# Altium schematic symbol library FPGA_Xilinx_Artix7.SchLib: 27 symbols (part 1 of 5)
Pins are listed as number, name and electrical type; pins without a type are passive.

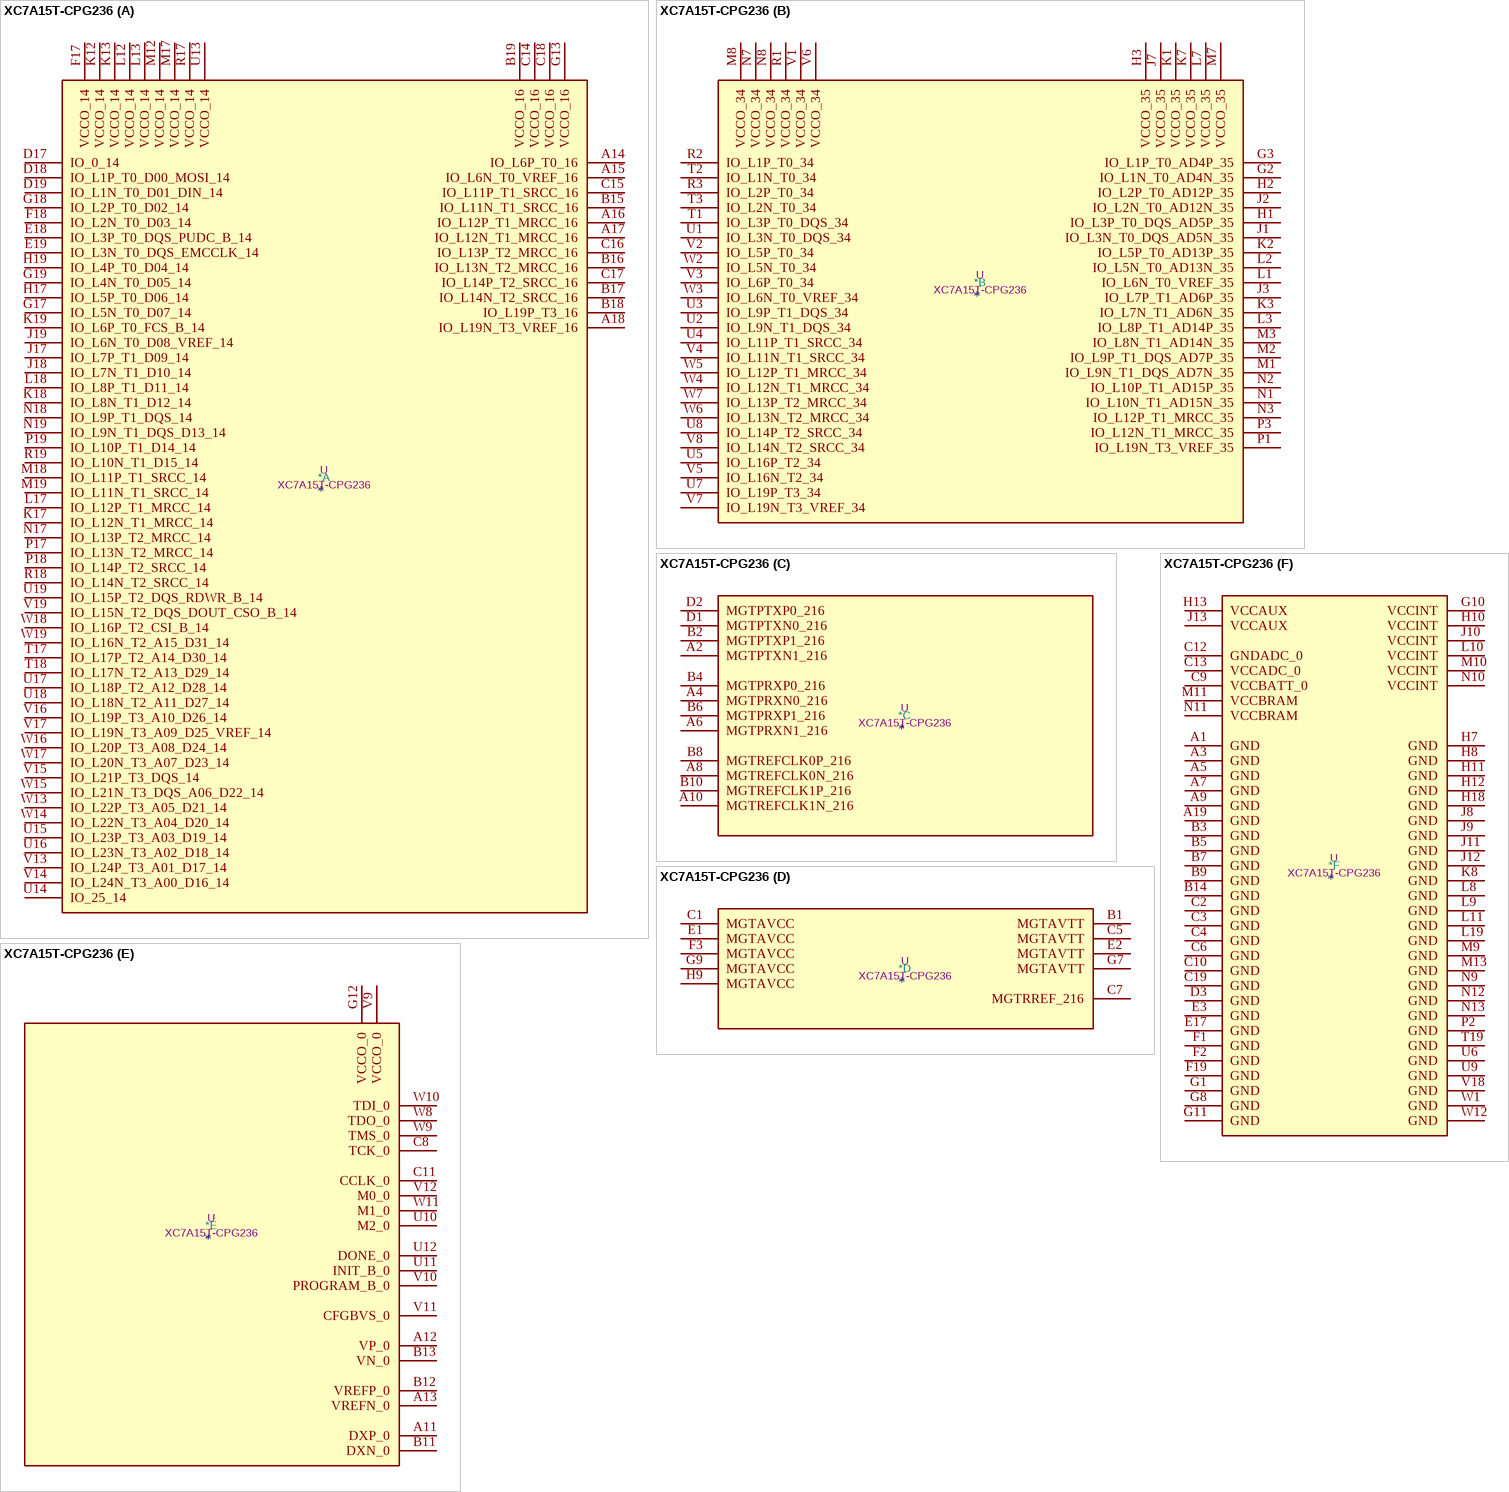
[diagram p0: symbol XC7A15T-CPG236]

## XC7A15T-CPG236
designator *  value XC7A15T-CPG236  Reference: U
Artix 7 T 15 XC7A15T-CPG236; ki_keywords: FPGA; Description_: Artix 7 T 15 XC7A15T-CPG236
part A pins: A14 IO_L6P_T0_16, A15 IO_L6N_T0_VREF_16, A16 IO_L12P_T1_MRCC_16, A17 IO_L12N_T1_MRCC_16, A18 IO_L19N_T3_VREF_16, B15 IO_L11N_T1_SRCC_16, B16 IO_L13N_T2_MRCC_16, B17 IO_L14N_T2_SRCC_16, B18 IO_L19P_T3_16, B19 VCCO_16, C14 VCCO_16, C15 IO_L11P_T1_SRCC_16, C16 IO_L13P_T2_MRCC_16, C17 IO_L14P_T2_SRCC_16, C18 VCCO_16, D17 IO_0_14, D18 IO_L1P_T0_D00_MOSI_14, D19 IO_L1N_T0_D01_DIN_14, E18 IO_L3P_T0_DQS_PUDC_B_14, E19 IO_L3N_T0_DQS_EMCCLK_14, F17 VCCO_14, F18 IO_L2N_T0_D03_14, G13 VCCO_16, G17 IO_L5N_T0_D07_14, G18 IO_L2P_T0_D02_14, G19 IO_L4N_T0_D05_14, H17 IO_L5P_T0_D06_14, H19 IO_L4P_T0_D04_14, J17 IO_L7P_T1_D09_14, J18 IO_L7N_T1_D10_14, J19 IO_L6N_T0_D08_VREF_14, K12 VCCO_14, K13 VCCO_14, K17 IO_L12N_T1_MRCC_14, K18 IO_L8N_T1_D12_14, K19 IO_L6P_T0_FCS_B_14, L12 VCCO_14, L13 VCCO_14, L17 IO_L12P_T1_MRCC_14, L18 IO_L8P_T1_D11_14, M12 VCCO_14, M17 VCCO_14, M18 IO_L11P_T1_SRCC_14, M19 IO_L11N_T1_SRCC_14, N17 IO_L13P_T2_MRCC_14, N18 IO_L9P_T1_DQS_14, N19 IO_L9N_T1_DQS_D13_14, P17 IO_L13N_T2_MRCC_14, P18 IO_L14P_T2_SRCC_14, P19 IO_L10P_T1_D14_14, R17 VCCO_14, R18 IO_L14N_T2_SRCC_14, R19 IO_L10N_T1_D15_14, T17 IO_L17P_T2_A14_D30_14, T18 IO_L17N_T2_A13_D29_14, U13 VCCO_14, U14 IO_25_14, U15 IO_L23P_T3_A03_D19_14, U16 IO_L23N_T3_A02_D18_14, U17 IO_L18P_T2_A12_D28_14, U18 IO_L18N_T2_A11_D27_14, U19 IO_L15P_T2_DQS_RDWR_B_14, V13 IO_L24P_T3_A01_D17_14, V14 IO_L24N_T3_A00_D16_14, V15 IO_L21P_T3_DQS_14, V16 IO_L19P_T3_A10_D26_14, V17 IO_L19N_T3_A09_D25_VREF_14, V19 IO_L15N_T2_DQS_DOUT_CSO_B_14, W13 IO_L22P_T3_A05_D21_14, W14 IO_L22N_T3_A04_D20_14, W15 IO_L21N_T3_DQS_A06_D22_14, W16 IO_L20P_T3_A08_D24_14, W17 IO_L20N_T3_A07_D23_14, W18 IO_L16P_T2_CSI_B_14, W19 IO_L16N_T2_A15_D31_14
part B pins: G2 IO_L1N_T0_AD4N_35, G3 IO_L1P_T0_AD4P_35, H1 IO_L3P_T0_DQS_AD5P_35, H2 IO_L2P_T0_AD12P_35, H3 VCCO_35, J1 IO_L3N_T0_DQS_AD5N_35, J2 IO_L2N_T0_AD12N_35, J3 IO_L7P_T1_AD6P_35, J7 VCCO_35, K1 VCCO_35, K2 IO_L5P_T0_AD13P_35, K3 IO_L7N_T1_AD6N_35, K7 VCCO_35, L1 IO_L6N_T0_VREF_35, L2 IO_L5N_T0_AD13N_35, L3 IO_L8P_T1_AD14P_35, L7 VCCO_35, M1 IO_L9N_T1_DQS_AD7N_35, M2 IO_L9P_T1_DQS_AD7P_35, M3 IO_L8N_T1_AD14N_35, M7 VCCO_35, M8 VCCO_34, N1 IO_L10N_T1_AD15N_35, N2 IO_L10P_T1_AD15P_35, N3 IO_L12P_T1_MRCC_35, N7 VCCO_34, N8 VCCO_34, P1 IO_L19N_T3_VREF_35, P3 IO_L12N_T1_MRCC_35, R1 VCCO_34, R2 IO_L1P_T0_34, R3 IO_L2P_T0_34, T1 IO_L3P_T0_DQS_34, T2 IO_L1N_T0_34, T3 IO_L2N_T0_34, U1 IO_L3N_T0_DQS_34, U2 IO_L9N_T1_DQS_34, U3 IO_L9P_T1_DQS_34, U4 IO_L11P_T1_SRCC_34, U5 IO_L16P_T2_34, U7 IO_L19P_T3_34, U8 IO_L14P_T2_SRCC_34, V1 VCCO_34, V2 IO_L5P_T0_34, V3 IO_L6P_T0_34, V4 IO_L11N_T1_SRCC_34, V5 IO_L16N_T2_34, V6 VCCO_34, V7 IO_L19N_T3_VREF_34, V8 IO_L14N_T2_SRCC_34, W2 IO_L5N_T0_34, W3 IO_L6N_T0_VREF_34, W4 IO_L12N_T1_MRCC_34, W5 IO_L12P_T1_MRCC_34, W6 IO_L13N_T2_MRCC_34, W7 IO_L13P_T2_MRCC_34
part C pins: A2 MGTPTXN1_216, A4 MGTPRXN0_216, A6 MGTPRXN1_216, A8 MGTREFCLK0N_216, A10 MGTREFCLK1N_216, B2 MGTPTXP1_216, B4 MGTPRXP0_216, B6 MGTPRXP1_216, B8 MGTREFCLK0P_216, B10 MGTREFCLK1P_216, D1 MGTPTXN0_216, D2 MGTPTXP0_216
part D pins: B1 MGTAVTT, C1 MGTAVCC, C5 MGTAVTT, C7 MGTRREF_216, E1 MGTAVCC, E2 MGTAVTT, F3 MGTAVCC, G7 MGTAVTT, G9 MGTAVCC, H9 MGTAVCC
part E pins: A11 DXP_0, A12 VP_0, A13 VREFN_0, B11 DXN_0, B12 VREFP_0, B13 VN_0, C8 TCK_0, C11 CCLK_0, G12 VCCO_0, U10 M2_0, U11 INIT_B_0, U12 DONE_0, V9 VCCO_0, V10 PROGRAM_B_0, V11 CFGBVS_0, V12 M0_0, W8 TDO_0, W9 TMS_0, W10 TDI_0, W11 M1_0
part F pins: A1 GND, A3 GND, A5 GND, A7 GND, A9 GND, A19 GND, B3 GND, B5 GND, B7 GND, B9 GND, B14 GND, C2 GND, C3 GND, C4 GND, C6 GND, C9 VCCBATT_0, C10 GND, C12 GNDADC_0, C13 VCCADC_0, C19 GND, D3 GND, E3 GND, E17 GND, F1 GND, F2 GND, F19 GND, G1 GND, G8 GND, G10 VCCINT, G11 GND, H7 GND, H8 GND, H10 VCCINT, H11 GND, H12 GND, H13 VCCAUX, H18 GND, J8 GND, J9 GND, J10 VCCINT, J11 GND, J12 GND, J13 VCCAUX, K8 GND, L8 GND, L9 GND, L10 VCCINT, L11 GND, L19 GND, M9 GND, M10 VCCINT, M11 VCCBRAM, M13 GND, N9 GND, N10 VCCINT, N11 VCCBRAM, N12 GND, N13 GND, P2 GND, T19 GND, U6 GND, U9 GND, V18 GND, W1 GND, W12 GND

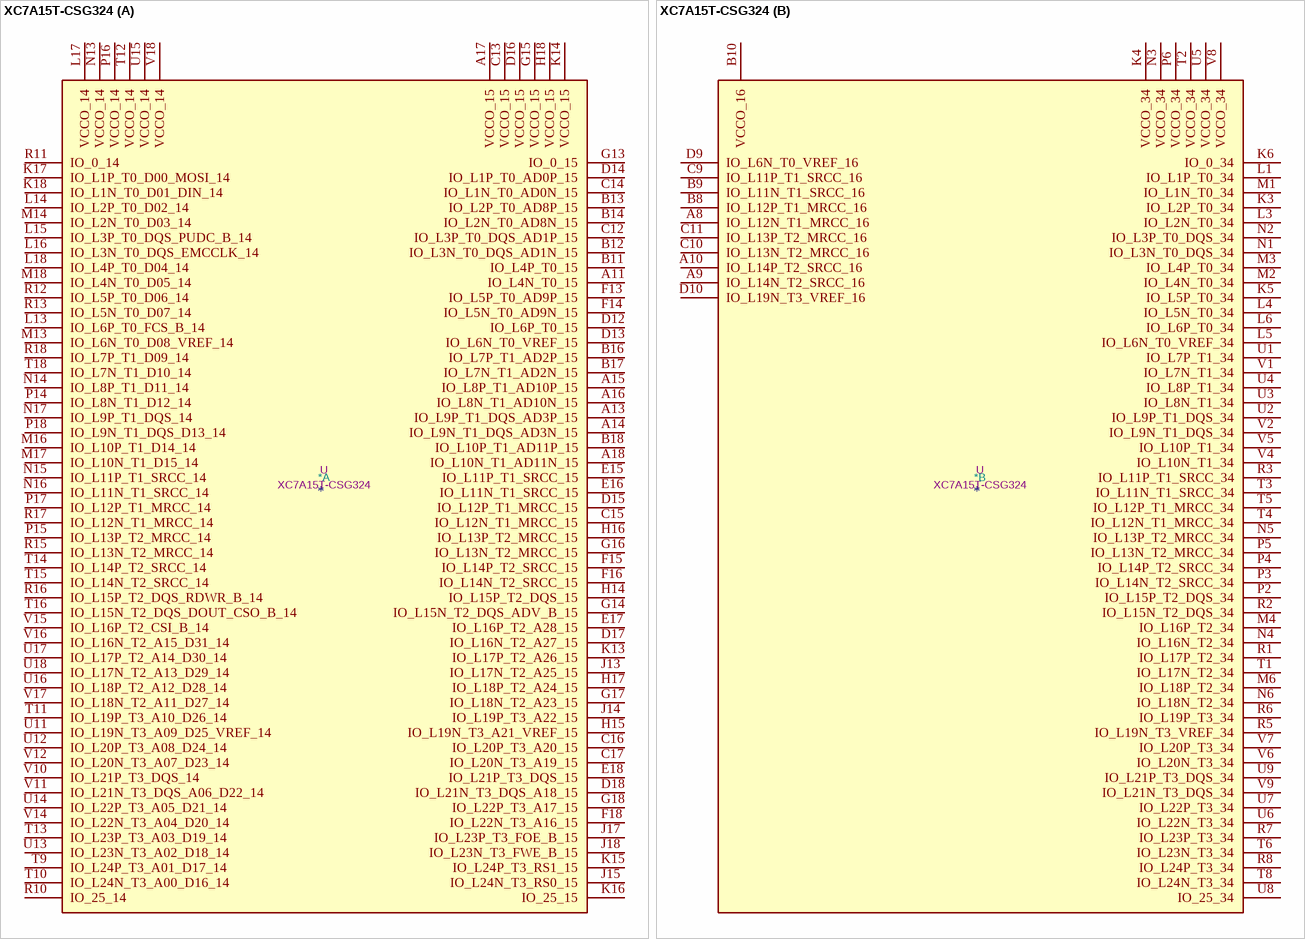
[diagram p1: symbol XC7A15T-CSG324]

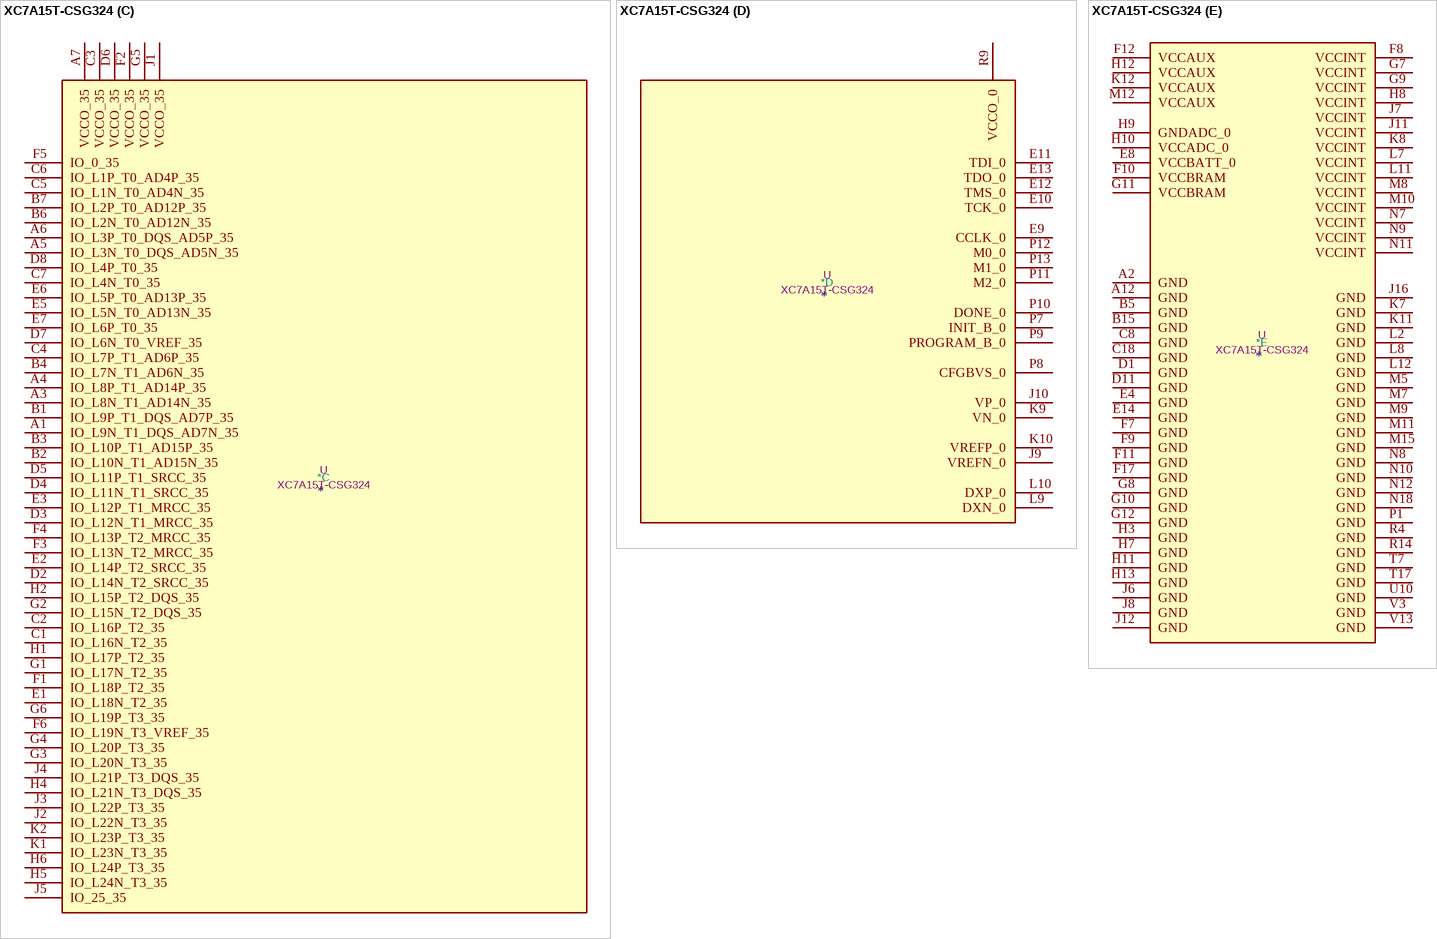
[diagram p2: symbol XC7A15T-CSG324]

## XC7A15T-CSG324
designator *  value XC7A15T-CSG324  Reference: U
Artix 7 T 15 XC7A15T-CSG324; ki_keywords: FPGA; Description_: Artix 7 T 15 XC7A15T-CSG324
part A pins: A11 IO_L4N_T0_15, A13 IO_L9P_T1_DQS_AD3P_15, A14 IO_L9N_T1_DQS_AD3N_15, A15 IO_L8P_T1_AD10P_15, A16 IO_L8N_T1_AD10N_15, A17 VCCO_15, A18 IO_L10N_T1_AD11N_15, B11 IO_L4P_T0_15, B12 IO_L3N_T0_DQS_AD1N_15, B13 IO_L2P_T0_AD8P_15, B14 IO_L2N_T0_AD8N_15, B16 IO_L7P_T1_AD2P_15, B17 IO_L7N_T1_AD2N_15, B18 IO_L10P_T1_AD11P_15, C12 IO_L3P_T0_DQS_AD1P_15, C13 VCCO_15, C14 IO_L1N_T0_AD0N_15, C15 IO_L12N_T1_MRCC_15, C16 IO_L20P_T3_A20_15, C17 IO_L20N_T3_A19_15, D12 IO_L6P_T0_15, D13 IO_L6N_T0_VREF_15, D14 IO_L1P_T0_AD0P_15, D15 IO_L12P_T1_MRCC_15, D16 VCCO_15, D17 IO_L16N_T2_A27_15, D18 IO_L21N_T3_DQS_A18_15, E15 IO_L11P_T1_SRCC_15, E16 IO_L11N_T1_SRCC_15, E17 IO_L16P_T2_A28_15, E18 IO_L21P_T3_DQS_15, F13 IO_L5P_T0_AD9P_15, F14 IO_L5N_T0_AD9N_15, F15 IO_L14P_T2_SRCC_15, F16 IO_L14N_T2_SRCC_15, F18 IO_L22N_T3_A16_15, G13 IO_0_15, G14 IO_L15N_T2_DQS_ADV_B_15, G15 VCCO_15, G16 IO_L13N_T2_MRCC_15, G17 IO_L18N_T2_A23_15, G18 IO_L22P_T3_A17_15, H14 IO_L15P_T2_DQS_15, H15 IO_L19N_T3_A21_VREF_15, H16 IO_L13P_T2_MRCC_15, H17 IO_L18P_T2_A24_15, H18 VCCO_15, J13 IO_L17N_T2_A25_15, J14 IO_L19P_T3_A22_15, J15 IO_L24N_T3_RS0_15, J17 IO_L23P_T3_FOE_B_15, J18 IO_L23N_T3_FWE_B_15, K13 IO_L17P_T2_A26_15, K14 VCCO_15, K15 IO_L24P_T3_RS1_15, K16 IO_25_15, K17 IO_L1P_T0_D00_MOSI_14, K18 IO_L1N_T0_D01_DIN_14, L13 IO_L6P_T0_FCS_B_14, L14 IO_L2P_T0_D02_14, L15 IO_L3P_T0_DQS_PUDC_B_14, L16 IO_L3N_T0_DQS_EMCCLK_14, L17 VCCO_14, L18 IO_L4P_T0_D04_14, M13 IO_L6N_T0_D08_VREF_14, M14 IO_L2N_T0_D03_14, M16 IO_L10P_T1_D14_14, M17 IO_L10N_T1_D15_14, M18 IO_L4N_T0_D05_14, N13 VCCO_14, N14 IO_L8P_T1_D11_14, N15 IO_L11P_T1_SRCC_14, N16 IO_L11N_T1_SRCC_14, N17 IO_L9P_T1_DQS_14, P14 IO_L8N_T1_D12_14, P15 IO_L13P_T2_MRCC_14, P16 VCCO_14, P17 IO_L12P_T1_MRCC_14, P18 IO_L9N_T1_DQS_D13_14, R10 IO_25_14, R11 IO_0_14, R12 IO_L5P_T0_D06_14, R13 IO_L5N_T0_D07_14, R15 IO_L13N_T2_MRCC_14, R16 IO_L15P_T2_DQS_RDWR_B_14, R17 IO_L12N_T1_MRCC_14, R18 IO_L7P_T1_D09_14, T9 IO_L24P_T3_A01_D17_14, T10 IO_L24N_T3_A00_D16_14, T11 IO_L19P_T3_A10_D26_14, T12 VCCO_14, T13 IO_L23P_T3_A03_D19_14, T14 IO_L14P_T2_SRCC_14, T15 IO_L14N_T2_SRCC_14, T16 IO_L15N_T2_DQS_DOUT_CSO_B_14, T18 IO_L7N_T1_D10_14, U11 IO_L19N_T3_A09_D25_VREF_14, U12 IO_L20P_T3_A08_D24_14, U13 IO_L23N_T3_A02_D18_14, U14 IO_L22P_T3_A05_D21_14, U15 VCCO_14, U16 IO_L18P_T2_A12_D28_14, U17 IO_L17P_T2_A14_D30_14, U18 IO_L17N_T2_A13_D29_14, V10 IO_L21P_T3_DQS_14, V11 IO_L21N_T3_DQS_A06_D22_14, V12 IO_L20N_T3_A07_D23_14, V14 IO_L22N_T3_A04_D20_14, V15 IO_L16P_T2_CSI_B_14, V16 IO_L16N_T2_A15_D31_14, V17 IO_L18N_T2_A11_D27_14, V18 VCCO_14
part B pins: A8 IO_L12N_T1_MRCC_16, A9 IO_L14N_T2_SRCC_16, A10 IO_L14P_T2_SRCC_16, B8 IO_L12P_T1_MRCC_16, B9 IO_L11N_T1_SRCC_16, B10 VCCO_16, C9 IO_L11P_T1_SRCC_16, C10 IO_L13N_T2_MRCC_16, C11 IO_L13P_T2_MRCC_16, D9 IO_L6N_T0_VREF_16, D10 IO_L19N_T3_VREF_16, K3 IO_L2P_T0_34, K4 VCCO_34, K5 IO_L5P_T0_34, K6 IO_0_34, L1 IO_L1P_T0_34, L3 IO_L2N_T0_34, L4 IO_L5N_T0_34, L5 IO_L6N_T0_VREF_34, L6 IO_L6P_T0_34, M1 IO_L1N_T0_34, M2 IO_L4N_T0_34, M3 IO_L4P_T0_34, M4 IO_L16P_T2_34, M6 IO_L18P_T2_34, N1 IO_L3N_T0_DQS_34, N2 IO_L3P_T0_DQS_34, N3 VCCO_34, N4 IO_L16N_T2_34, N5 IO_L13P_T2_MRCC_34, N6 IO_L18N_T2_34, P2 IO_L15P_T2_DQS_34, P3 IO_L14N_T2_SRCC_34, P4 IO_L14P_T2_SRCC_34, P5 IO_L13N_T2_MRCC_34, P6 VCCO_34, R1 IO_L17P_T2_34, R2 IO_L15N_T2_DQS_34, R3 IO_L11P_T1_SRCC_34, R5 IO_L19N_T3_VREF_34, R6 IO_L19P_T3_34, R7 IO_L23P_T3_34, R8 IO_L24P_T3_34, T1 IO_L17N_T2_34, T2 VCCO_34, T3 IO_L11N_T1_SRCC_34, T4 IO_L12N_T1_MRCC_34, T5 IO_L12P_T1_MRCC_34, T6 IO_L23N_T3_34, T8 IO_L24N_T3_34, U1 IO_L7P_T1_34, U2 IO_L9P_T1_DQS_34, U3 IO_L8N_T1_34, U4 IO_L8P_T1_34, U5 VCCO_34, U6 IO_L22N_T3_34, U7 IO_L22P_T3_34, U8 IO_25_34, U9 IO_L21P_T3_DQS_34, V1 IO_L7N_T1_34, V2 IO_L9N_T1_DQS_34, V4 IO_L10N_T1_34, V5 IO_L10P_T1_34, V6 IO_L20N_T3_34, V7 IO_L20P_T3_34, V8 VCCO_34, V9 IO_L21N_T3_DQS_34
part C pins: A1 IO_L9N_T1_DQS_AD7N_35, A3 IO_L8N_T1_AD14N_35, A4 IO_L8P_T1_AD14P_35, A5 IO_L3N_T0_DQS_AD5N_35, A6 IO_L3P_T0_DQS_AD5P_35, A7 VCCO_35, B1 IO_L9P_T1_DQS_AD7P_35, B2 IO_L10N_T1_AD15N_35, B3 IO_L10P_T1_AD15P_35, B4 IO_L7N_T1_AD6N_35, B6 IO_L2N_T0_AD12N_35, B7 IO_L2P_T0_AD12P_35, C1 IO_L16N_T2_35, C2 IO_L16P_T2_35, C3 VCCO_35, C4 IO_L7P_T1_AD6P_35, C5 IO_L1N_T0_AD4N_35, C6 IO_L1P_T0_AD4P_35, C7 IO_L4N_T0_35, D2 IO_L14N_T2_SRCC_35, D3 IO_L12N_T1_MRCC_35, D4 IO_L11N_T1_SRCC_35, D5 IO_L11P_T1_SRCC_35, D6 VCCO_35, D7 IO_L6N_T0_VREF_35, D8 IO_L4P_T0_35, E1 IO_L18N_T2_35, E2 IO_L14P_T2_SRCC_35, E3 IO_L12P_T1_MRCC_35, E5 IO_L5N_T0_AD13N_35, E6 IO_L5P_T0_AD13P_35, E7 IO_L6P_T0_35, F1 IO_L18P_T2_35, F2 VCCO_35, F3 IO_L13N_T2_MRCC_35, F4 IO_L13P_T2_MRCC_35, F5 IO_0_35, F6 IO_L19N_T3_VREF_35, G1 IO_L17N_T2_35, G2 IO_L15N_T2_DQS_35, G3 IO_L20N_T3_35, G4 IO_L20P_T3_35, G5 VCCO_35, G6 IO_L19P_T3_35, H1 IO_L17P_T2_35, H2 IO_L15P_T2_DQS_35, H4 IO_L21N_T3_DQS_35, H5 IO_L24N_T3_35, H6 IO_L24P_T3_35, J1 VCCO_35, J2 IO_L22N_T3_35, J3 IO_L22P_T3_35, J4 IO_L21P_T3_DQS_35, J5 IO_25_35, K1 IO_L23N_T3_35, K2 IO_L23P_T3_35
part D pins: E9 CCLK_0, E10 TCK_0, E11 TDI_0, E12 TMS_0, E13 TDO_0, J9 VREFN_0, J10 VP_0, K9 VN_0, K10 VREFP_0, L9 DXN_0, L10 DXP_0, P7 INIT_B_0, P8 CFGBVS_0, P9 PROGRAM_B_0, P10 DONE_0, P11 M2_0, P12 M0_0, P13 M1_0, R9 VCCO_0
part E pins: A2 GND, A12 GND, B5 GND, B15 GND, C8 GND, C18 GND, D1 GND, D11 GND, E4 GND, E8 VCCBATT_0, E14 GND, F7 GND, F8 VCCINT, F9 GND, F10 VCCBRAM, F11 GND, F12 VCCAUX, F17 GND, G7 VCCINT, G8 GND, G9 VCCINT, G10 GND, G11 VCCBRAM, G12 GND, H3 GND, H7 GND, H8 VCCINT, H9 GNDADC_0, H10 VCCADC_0, H11 GND, H12 VCCAUX, H13 GND, J6 GND, J7 VCCINT, J8 GND, J11 VCCINT, J12 GND, J16 GND, K7 GND, K8 VCCINT, K11 GND, K12 VCCAUX, L2 GND, L7 VCCINT, L8 GND, L11 VCCINT, L12 GND, M5 GND, M7 GND, M8 VCCINT, M9 GND, M10 VCCINT, M11 GND, M12 VCCAUX, M15 GND, N7 VCCINT, N8 GND, N9 VCCINT, N10 GND, N11 VCCINT, N12 GND, N18 GND, P1 GND, R4 GND, R14 GND, T7 GND, T17 GND, U10 GND, V3 GND, V13 GND

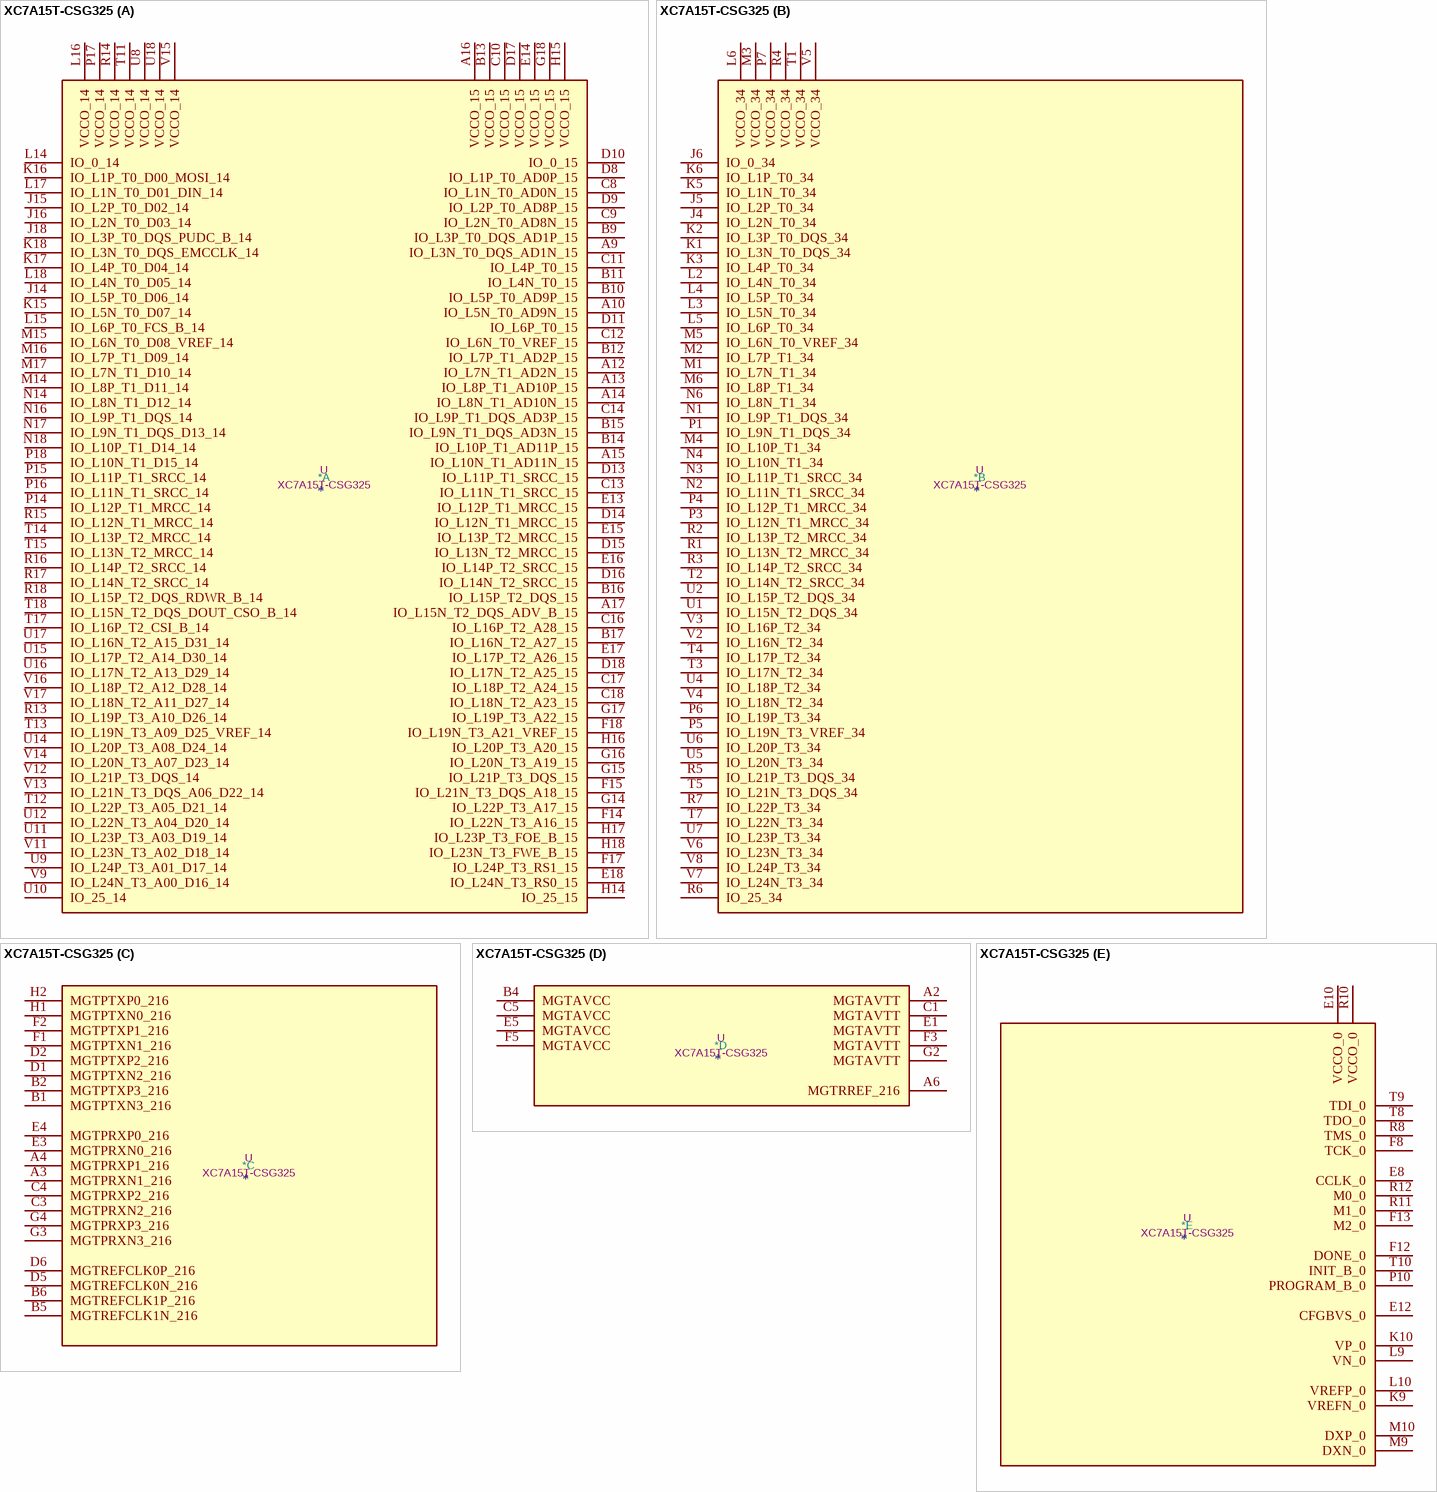
[diagram p3: symbol XC7A15T-CSG325]

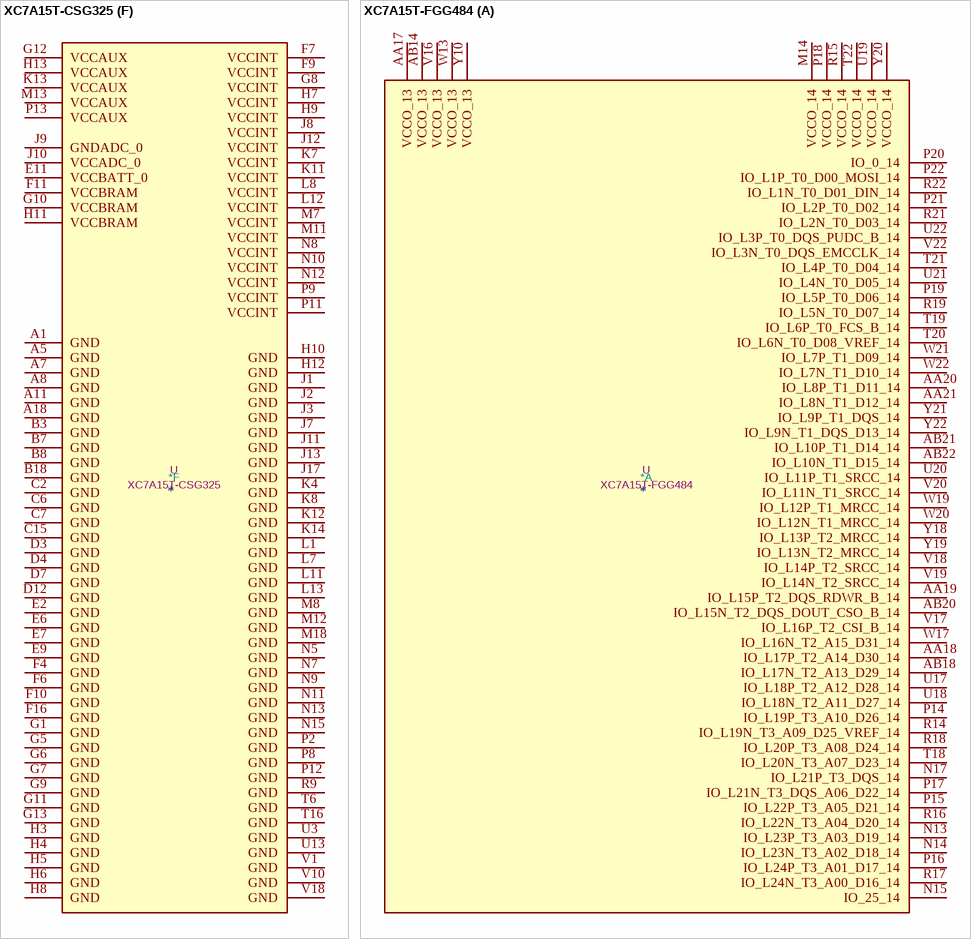
[diagram p4: symbols XC7A15T-CSG325 to XC7A15T-FGG484]

## XC7A15T-CSG325
designator *  value XC7A15T-CSG325  Reference: U
Artix 7 T 15 XC7A15T-CSG325; ki_keywords: FPGA; Description_: Artix 7 T 15 XC7A15T-CSG325
part A pins: A9 IO_L3N_T0_DQS_AD1N_15, A10 IO_L5N_T0_AD9N_15, A12 IO_L7N_T1_AD2N_15, A13 IO_L8P_T1_AD10P_15, A14 IO_L8N_T1_AD10N_15, A15 IO_L10N_T1_AD11N_15, A16 VCCO_15, A17 IO_L15N_T2_DQS_ADV_B_15, B9 IO_L3P_T0_DQS_AD1P_15, B10 IO_L5P_T0_AD9P_15, B11 IO_L4N_T0_15, B12 IO_L7P_T1_AD2P_15, B13 VCCO_15, B14 IO_L10P_T1_AD11P_15, B15 IO_L9N_T1_DQS_AD3N_15, B16 IO_L15P_T2_DQS_15, B17 IO_L16N_T2_A27_15, C8 IO_L1N_T0_AD0N_15, C9 IO_L2N_T0_AD8N_15, C10 VCCO_15, C11 IO_L4P_T0_15, C12 IO_L6N_T0_VREF_15, C13 IO_L11N_T1_SRCC_15, C14 IO_L9P_T1_DQS_AD3P_15, C16 IO_L16P_T2_A28_15, C17 IO_L18P_T2_A24_15, C18 IO_L18N_T2_A23_15, D8 IO_L1P_T0_AD0P_15, D9 IO_L2P_T0_AD8P_15, D10 IO_0_15, D11 IO_L6P_T0_15, D13 IO_L11P_T1_SRCC_15, D14 IO_L12N_T1_MRCC_15, D15 IO_L13N_T2_MRCC_15, D16 IO_L14N_T2_SRCC_15, D17 VCCO_15, D18 IO_L17N_T2_A25_15, E13 IO_L12P_T1_MRCC_15, E14 VCCO_15, E15 IO_L13P_T2_MRCC_15, E16 IO_L14P_T2_SRCC_15, E17 IO_L17P_T2_A26_15, E18 IO_L24N_T3_RS0_15, F14 IO_L22N_T3_A16_15, F15 IO_L21N_T3_DQS_A18_15, F17 IO_L24P_T3_RS1_15, F18 IO_L19N_T3_A21_VREF_15, G14 IO_L22P_T3_A17_15, G15 IO_L21P_T3_DQS_15, G16 IO_L20N_T3_A19_15, G17 IO_L19P_T3_A22_15, G18 VCCO_15, H14 IO_25_15, H15 VCCO_15, H16 IO_L20P_T3_A20_15, H17 IO_L23P_T3_FOE_B_15, H18 IO_L23N_T3_FWE_B_15, J14 IO_L5P_T0_D06_14, J15 IO_L2P_T0_D02_14, J16 IO_L2N_T0_D03_14, J18 IO_L3P_T0_DQS_PUDC_B_14, K15 IO_L5N_T0_D07_14, K16 IO_L1P_T0_D00_MOSI_14, K17 IO_L4P_T0_D04_14, K18 IO_L3N_T0_DQS_EMCCLK_14, L14 IO_0_14, L15 IO_L6P_T0_FCS_B_14, L16 VCCO_14, L17 IO_L1N_T0_D01_DIN_14, L18 IO_L4N_T0_D05_14, M14 IO_L8P_T1_D11_14, M15 IO_L6N_T0_D08_VREF_14, M16 IO_L7P_T1_D09_14, M17 IO_L7N_T1_D10_14, N14 IO_L8N_T1_D12_14, N16 IO_L9P_T1_DQS_14, N17 IO_L9N_T1_DQS_D13_14, N18 IO_L10P_T1_D14_14, P14 IO_L12P_T1_MRCC_14, P15 IO_L11P_T1_SRCC_14, P16 IO_L11N_T1_SRCC_14, P17 VCCO_14, P18 IO_L10N_T1_D15_14, R13 IO_L19P_T3_A10_D26_14, R14 VCCO_14, R15 IO_L12N_T1_MRCC_14, R16 IO_L14P_T2_SRCC_14, R17 IO_L14N_T2_SRCC_14, R18 IO_L15P_T2_DQS_RDWR_B_14, T11 VCCO_14, T12 IO_L22P_T3_A05_D21_14, T13 IO_L19N_T3_A09_D25_VREF_14, T14 IO_L13P_T2_MRCC_14, T15 IO_L13N_T2_MRCC_14, T17 IO_L16P_T2_CSI_B_14, T18 IO_L15N_T2_DQS_DOUT_CSO_B_14, U8 VCCO_14, U9 IO_L24P_T3_A01_D17_14, U10 IO_25_14, U11 IO_L23P_T3_A03_D19_14, U12 IO_L22N_T3_A04_D20_14, U14 IO_L20P_T3_A08_D24_14, U15 IO_L17P_T2_A14_D30_14, U16 IO_L17N_T2_A13_D29_14, U17 IO_L16N_T2_A15_D31_14, U18 VCCO_14, V9 IO_L24N_T3_A00_D16_14, V11 IO_L23N_T3_A02_D18_14, V12 IO_L21P_T3_DQS_14, V13 IO_L21N_T3_DQS_A06_D22_14, V14 IO_L20N_T3_A07_D23_14, V15 VCCO_14, V16 IO_L18P_T2_A12_D28_14, V17 IO_L18N_T2_A11_D27_14
part B pins: J4 IO_L2N_T0_34, J5 IO_L2P_T0_34, J6 IO_0_34, K1 IO_L3N_T0_DQS_34, K2 IO_L3P_T0_DQS_34, K3 IO_L4P_T0_34, K5 IO_L1N_T0_34, K6 IO_L1P_T0_34, L2 IO_L4N_T0_34, L3 IO_L5N_T0_34, L4 IO_L5P_T0_34, L5 IO_L6P_T0_34, L6 VCCO_34, M1 IO_L7N_T1_34, M2 IO_L7P_T1_34, M3 VCCO_34, M4 IO_L10P_T1_34, M5 IO_L6N_T0_VREF_34, M6 IO_L8P_T1_34, N1 IO_L9P_T1_DQS_34, N2 IO_L11N_T1_SRCC_34, N3 IO_L11P_T1_SRCC_34, N4 IO_L10N_T1_34, N6 IO_L8N_T1_34, P1 IO_L9N_T1_DQS_34, P3 IO_L12N_T1_MRCC_34, P4 IO_L12P_T1_MRCC_34, P5 IO_L19N_T3_VREF_34, P6 IO_L19P_T3_34, P7 VCCO_34, R1 IO_L13N_T2_MRCC_34, R2 IO_L13P_T2_MRCC_34, R3 IO_L14P_T2_SRCC_34, R4 VCCO_34, R5 IO_L21P_T3_DQS_34, R6 IO_25_34, R7 IO_L22P_T3_34, T1 VCCO_34, T2 IO_L14N_T2_SRCC_34, T3 IO_L17N_T2_34, T4 IO_L17P_T2_34, T5 IO_L21N_T3_DQS_34, T7 IO_L22N_T3_34, U1 IO_L15N_T2_DQS_34, U2 IO_L15P_T2_DQS_34, U4 IO_L18P_T2_34, U5 IO_L20N_T3_34, U6 IO_L20P_T3_34, U7 IO_L23P_T3_34, V2 IO_L16N_T2_34, V3 IO_L16P_T2_34, V4 IO_L18N_T2_34, V5 VCCO_34, V6 IO_L23N_T3_34, V7 IO_L24N_T3_34, V8 IO_L24P_T3_34
part C pins: A3 MGTPRXN1_216, A4 MGTPRXP1_216, B1 MGTPTXN3_216, B2 MGTPTXP3_216, B5 MGTREFCLK1N_216, B6 MGTREFCLK1P_216, C3 MGTPRXN2_216, C4 MGTPRXP2_216, D1 MGTPTXN2_216, D2 MGTPTXP2_216, D5 MGTREFCLK0N_216, D6 MGTREFCLK0P_216, E3 MGTPRXN0_216, E4 MGTPRXP0_216, F1 MGTPTXN1_216, F2 MGTPTXP1_216, G3 MGTPRXN3_216, G4 MGTPRXP3_216, H1 MGTPTXN0_216, H2 MGTPTXP0_216
part D pins: A2 MGTAVTT, A6 MGTRREF_216, B4 MGTAVCC, C1 MGTAVTT, C5 MGTAVCC, E1 MGTAVTT, E5 MGTAVCC, F3 MGTAVTT, F5 MGTAVCC, G2 MGTAVTT
part E pins: E8 CCLK_0, E10 VCCO_0, E12 CFGBVS_0, F8 TCK_0, F12 DONE_0, F13 M2_0, K9 VREFN_0, K10 VP_0, L9 VN_0, L10 VREFP_0, M9 DXN_0, M10 DXP_0, P10 PROGRAM_B_0, R8 TMS_0, R10 VCCO_0, R11 M1_0, R12 M0_0, T8 TDO_0, T9 TDI_0, T10 INIT_B_0
part F pins: A1 GND, A5 GND, A7 GND, A8 GND, A11 GND, A18 GND, B3 GND, B7 GND, B8 GND, B18 GND, C2 GND, C6 GND, C7 GND, C15 GND, D3 GND, D4 GND, D7 GND, D12 GND, E2 GND, E6 GND, E7 GND, E9 GND, E11 VCCBATT_0, F4 GND, F6 GND, F7 VCCINT, F9 VCCINT, F10 GND, F11 VCCBRAM, F16 GND, G1 GND, G5 GND, G6 GND, G7 GND, G8 VCCINT, G9 GND, G10 VCCBRAM, G11 GND, G12 VCCAUX, G13 GND, H3 GND, H4 GND, H5 GND, H6 GND, H7 VCCINT, H8 GND, H9 VCCINT, H10 GND, H11 VCCBRAM, H12 GND, H13 VCCAUX, J1 GND, J2 GND, J3 GND, J7 GND, J8 VCCINT, J9 GNDADC_0, J10 VCCADC_0, J11 GND, J12 VCCINT, J13 GND, J17 GND, K4 GND, K7 VCCINT, K8 GND, K11 VCCINT, K12 GND, K13 VCCAUX, K14 GND, L1 GND, L7 GND, L8 VCCINT, L11 GND, L12 VCCINT, L13 GND, M7 VCCINT, M8 GND, M11 VCCINT, M12 GND, M13 VCCAUX, M18 GND, N5 GND, N7 GND, N8 VCCINT, N9 GND, N10 VCCINT, N11 GND, N12 VCCINT, N13 GND, N15 GND, P2 GND, P8 GND, P9 VCCINT, P11 VCCINT, P12 GND, P13 VCCAUX, R9 GND, T6 GND, T16 GND, U3 GND, U13 GND, V1 GND, V10 GND, V18 GND

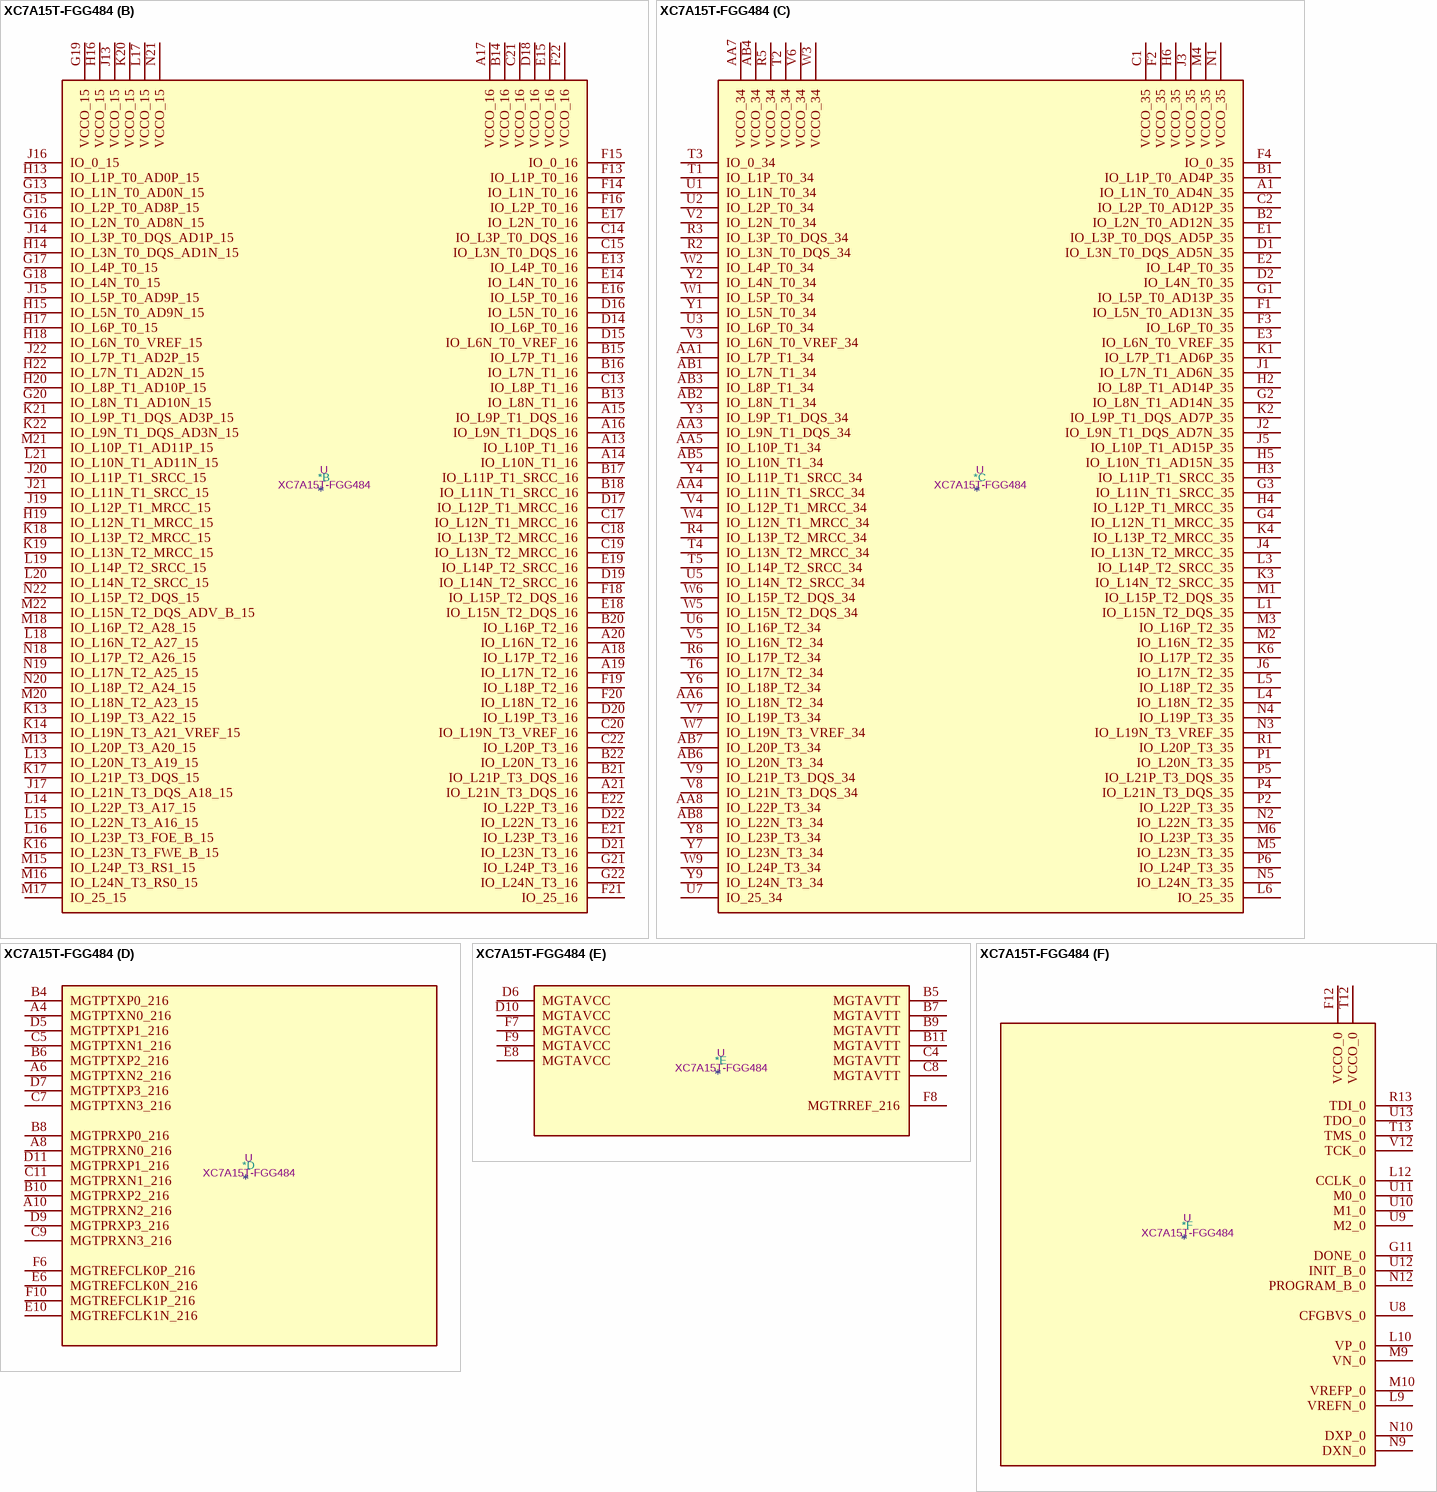
[diagram p5: symbol XC7A15T-FGG484]

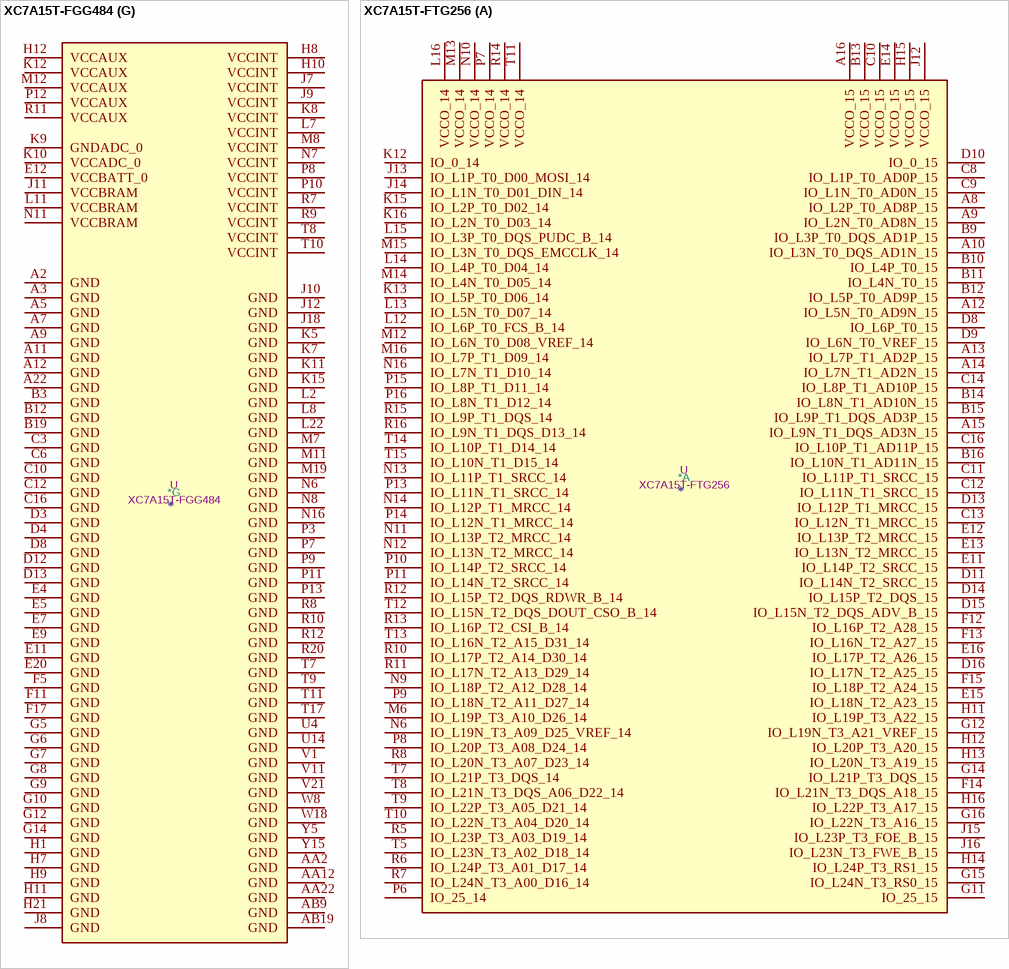
[diagram p6: symbols XC7A15T-FGG484 to XC7A15T-FTG256]

## XC7A15T-FGG484
designator *  value XC7A15T-FGG484  Reference: U
Artix 7 T 15 XC7A15T-FGG484; ki_keywords: FPGA; Description_: Artix 7 T 15 XC7A15T-FGG484
part A pins: AA17 VCCO_13, AA18 IO_L17P_T2_A14_D30_14, AA19 IO_L15P_T2_DQS_RDWR_B_14, AA20 IO_L8P_T1_D11_14, AA21 IO_L8N_T1_D12_14, AB14 VCCO_13, AB18 IO_L17N_T2_A13_D29_14, AB20 IO_L15N_T2_DQS_DOUT_CSO_B_14, AB21 IO_L10P_T1_D14_14, AB22 IO_L10N_T1_D15_14, M14 VCCO_14, N13 IO_L23P_T3_A03_D19_14, N14 IO_L23N_T3_A02_D18_14, N15 IO_25_14, N17 IO_L21P_T3_DQS_14, P14 IO_L19P_T3_A10_D26_14, P15 IO_L22P_T3_A05_D21_14, P16 IO_L24P_T3_A01_D17_14, P17 IO_L21N_T3_DQS_A06_D22_14, P18 VCCO_14, P19 IO_L5P_T0_D06_14, P20 IO_0_14, P21 IO_L2P_T0_D02_14, P22 IO_L1P_T0_D00_MOSI_14, R14 IO_L19N_T3_A09_D25_VREF_14, R15 VCCO_14, R16 IO_L22N_T3_A04_D20_14, R17 IO_L24N_T3_A00_D16_14, R18 IO_L20P_T3_A08_D24_14, R19 IO_L5N_T0_D07_14, R21 IO_L2N_T0_D03_14, R22 IO_L1N_T0_D01_DIN_14, T18 IO_L20N_T3_A07_D23_14, T19 IO_L6P_T0_FCS_B_14, T20 IO_L6N_T0_D08_VREF_14, T21 IO_L4P_T0_D04_14, T22 VCCO_14, U17 IO_L18P_T2_A12_D28_14, U18 IO_L18N_T2_A11_D27_14, U19 VCCO_14, U20 IO_L11P_T1_SRCC_14, U21 IO_L4N_T0_D05_14, U22 IO_L3P_T0_DQS_PUDC_B_14, V16 VCCO_13, V17 IO_L16P_T2_CSI_B_14, V18 IO_L14P_T2_SRCC_14, V19 IO_L14N_T2_SRCC_14, V20 IO_L11N_T1_SRCC_14, V22 IO_L3N_T0_DQS_EMCCLK_14, W13 VCCO_13, W17 IO_L16N_T2_A15_D31_14, W19 IO_L12P_T1_MRCC_14, W20 IO_L12N_T1_MRCC_14, W21 IO_L7P_T1_D09_14, W22 IO_L7N_T1_D10_14, Y10 VCCO_13, Y18 IO_L13P_T2_MRCC_14, Y19 IO_L13N_T2_MRCC_14, Y20 VCCO_14, Y21 IO_L9P_T1_DQS_14, Y22 IO_L9N_T1_DQS_D13_14
part B pins: A13 IO_L10P_T1_16, A14 IO_L10N_T1_16, A15 IO_L9P_T1_DQS_16, A16 IO_L9N_T1_DQS_16, A17 VCCO_16, A18 IO_L17P_T2_16, A19 IO_L17N_T2_16, A20 IO_L16N_T2_16, A21 IO_L21N_T3_DQS_16, B13 IO_L8N_T1_16, B14 VCCO_16, B15 IO_L7P_T1_16, B16 IO_L7N_T1_16, B17 IO_L11P_T1_SRCC_16, B18 IO_L11N_T1_SRCC_16, B20 IO_L16P_T2_16, B21 IO_L21P_T3_DQS_16, B22 IO_L20N_T3_16, C13 IO_L8P_T1_16, C14 IO_L3P_T0_DQS_16, C15 IO_L3N_T0_DQS_16, C17 IO_L12N_T1_MRCC_16, C18 IO_L13P_T2_MRCC_16, C19 IO_L13N_T2_MRCC_16, C20 IO_L19N_T3_VREF_16, C21 VCCO_16, C22 IO_L20P_T3_16, D14 IO_L6P_T0_16, D15 IO_L6N_T0_VREF_16, D16 IO_L5N_T0_16, D17 IO_L12P_T1_MRCC_16, D18 VCCO_16, D19 IO_L14N_T2_SRCC_16, D20 IO_L19P_T3_16, D21 IO_L23N_T3_16, D22 IO_L22N_T3_16, E13 IO_L4P_T0_16, E14 IO_L4N_T0_16, E15 VCCO_16, E16 IO_L5P_T0_16, E17 IO_L2N_T0_16, E18 IO_L15N_T2_DQS_16, E19 IO_L14P_T2_SRCC_16, E21 IO_L23P_T3_16, E22 IO_L22P_T3_16, F13 IO_L1P_T0_16, F14 IO_L1N_T0_16, F15 IO_0_16, F16 IO_L2P_T0_16, F18 IO_L15P_T2_DQS_16, F19 IO_L18P_T2_16, F20 IO_L18N_T2_16, F21 IO_25_16, F22 VCCO_16, G13 IO_L1N_T0_AD0N_15, G15 IO_L2P_T0_AD8P_15, G16 IO_L2N_T0_AD8N_15, G17 IO_L4P_T0_15, G18 IO_L4N_T0_15, G19 VCCO_15, G20 IO_L8N_T1_AD10N_15, G21 IO_L24P_T3_16, G22 IO_L24N_T3_16, H13 IO_L1P_T0_AD0P_15, H14 IO_L3N_T0_DQS_AD1N_15, H15 IO_L5N_T0_AD9N_15, H16 VCCO_15, H17 IO_L6P_T0_15, H18 IO_L6N_T0_VREF_15, H19 IO_L12N_T1_MRCC_15, H20 IO_L8P_T1_AD10P_15, H22 IO_L7N_T1_AD2N_15, J13 VCCO_15, J14 IO_L3P_T0_DQS_AD1P_15, J15 IO_L5P_T0_AD9P_15, J16 IO_0_15, J17 IO_L21N_T3_DQS_A18_15, J19 IO_L12P_T1_MRCC_15, J20 IO_L11P_T1_SRCC_15, J21 IO_L11N_T1_SRCC_15, J22 IO_L7P_T1_AD2P_15, K13 IO_L19P_T3_A22_15, K14 IO_L19N_T3_A21_VREF_15, K16 IO_L23N_T3_FWE_B_15, K17 IO_L21P_T3_DQS_15, K18 IO_L13P_T2_MRCC_15, K19 IO_L13N_T2_MRCC_15, K20 VCCO_15, K21 IO_L9P_T1_DQS_AD3P_15, K22 IO_L9N_T1_DQS_AD3N_15, L13 IO_L20N_T3_A19_15, L14 IO_L22P_T3_A17_15, L15 IO_L22N_T3_A16_15, L16 IO_L23P_T3_FOE_B_15, L17 VCCO_15, L18 IO_L16N_T2_A27_15, L19 IO_L14P_T2_SRCC_15, L20 IO_L14N_T2_SRCC_15, L21 IO_L10N_T1_AD11N_15, M13 IO_L20P_T3_A20_15, M15 IO_L24P_T3_RS1_15, M16 IO_L24N_T3_RS0_15, M17 IO_25_15, M18 IO_L16P_T2_A28_15, M20 IO_L18N_T2_A23_15, M21 IO_L10P_T1_AD11P_15, M22 IO_L15N_T2_DQS_ADV_B_15, N18 IO_L17P_T2_A26_15, N19 IO_L17N_T2_A25_15, N20 IO_L18P_T2_A24_15, N21 VCCO_15, N22 IO_L15P_T2_DQS_15
part C pins: A1 IO_L1N_T0_AD4N_35, AA1 IO_L7P_T1_34, AA3 IO_L9N_T1_DQS_34, AA4 IO_L11N_T1_SRCC_34, AA5 IO_L10P_T1_34, AA6 IO_L18N_T2_34, AA7 VCCO_34, AA8 IO_L22P_T3_34, AB1 IO_L7N_T1_34, AB2 IO_L8N_T1_34, AB3 IO_L8P_T1_34, AB4 VCCO_34, AB5 IO_L10N_T1_34, AB6 IO_L20N_T3_34, AB7 IO_L20P_T3_34, AB8 IO_L22N_T3_34, B1 IO_L1P_T0_AD4P_35, B2 IO_L2N_T0_AD12N_35, C1 VCCO_35, C2 IO_L2P_T0_AD12P_35, D1 IO_L3N_T0_DQS_AD5N_35, D2 IO_L4N_T0_35, E1 IO_L3P_T0_DQS_AD5P_35, E2 IO_L4P_T0_35, E3 IO_L6N_T0_VREF_35, F1 IO_L5N_T0_AD13N_35, F2 VCCO_35, F3 IO_L6P_T0_35, F4 IO_0_35, G1 IO_L5P_T0_AD13P_35, G2 IO_L8N_T1_AD14N_35, G3 IO_L11N_T1_SRCC_35, G4 IO_L12N_T1_MRCC_35, H2 IO_L8P_T1_AD14P_35, H3 IO_L11P_T1_SRCC_35, H4 IO_L12P_T1_MRCC_35, H5 IO_L10N_T1_AD15N_35, H6 VCCO_35, J1 IO_L7N_T1_AD6N_35, J2 IO_L9N_T1_DQS_AD7N_35, J3 VCCO_35, J4 IO_L13N_T2_MRCC_35, J5 IO_L10P_T1_AD15P_35, J6 IO_L17N_T2_35, K1 IO_L7P_T1_AD6P_35, K2 IO_L9P_T1_DQS_AD7P_35, K3 IO_L14N_T2_SRCC_35, K4 IO_L13P_T2_MRCC_35, K6 IO_L17P_T2_35, L1 IO_L15N_T2_DQS_35, L3 IO_L14P_T2_SRCC_35, L4 IO_L18N_T2_35, L5 IO_L18P_T2_35, L6 IO_25_35, M1 IO_L15P_T2_DQS_35, M2 IO_L16N_T2_35, M3 IO_L16P_T2_35, M4 VCCO_35, M5 IO_L23N_T3_35, M6 IO_L23P_T3_35, N1 VCCO_35, N2 IO_L22N_T3_35, N3 IO_L19N_T3_VREF_35, N4 IO_L19P_T3_35, N5 IO_L24N_T3_35, P1 IO_L20N_T3_35, P2 IO_L22P_T3_35, P4 IO_L21N_T3_DQS_35, P5 IO_L21P_T3_DQS_35, P6 IO_L24P_T3_35, R1 IO_L20P_T3_35, R2 IO_L3N_T0_DQS_34, R3 IO_L3P_T0_DQS_34, R4 IO_L13P_T2_MRCC_34, R5 VCCO_34, R6 IO_L17P_T2_34, T1 IO_L1P_T0_34, T2 VCCO_34, T3 IO_0_34, T4 IO_L13N_T2_MRCC_34, T5 IO_L14P_T2_SRCC_34, T6 IO_L17N_T2_34, U1 IO_L1N_T0_34, U2 IO_L2P_T0_34, U3 IO_L6P_T0_34, U5 IO_L14N_T2_SRCC_34, U6 IO_L16P_T2_34, U7 IO_25_34, V2 IO_L2N_T0_34, V3 IO_L6N_T0_VREF_34, V4 IO_L12P_T1_MRCC_34, V5 IO_L16N_T2_34, V6 VCCO_34, V7 IO_L19P_T3_34, V8 IO_L21N_T3_DQS_34, V9 IO_L21P_T3_DQS_34, W1 IO_L5P_T0_34, W2 IO_L4P_T0_34, W3 VCCO_34, W4 IO_L12N_T1_MRCC_34, W5 IO_L15N_T2_DQS_34, W6 IO_L15P_T2_DQS_34, W7 IO_L19N_T3_VREF_34, W9 IO_L24P_T3_34, Y1 IO_L5N_T0_34, Y2 IO_L4N_T0_34, Y3 IO_L9P_T1_DQS_34, Y4 IO_L11P_T1_SRCC_34, Y6 IO_L18P_T2_34, Y7 IO_L23N_T3_34, Y8 IO_L23P_T3_34, Y9 IO_L24N_T3_34
part D pins: A4 MGTPTXN0_216, A6 MGTPTXN2_216, A8 MGTPRXN0_216, A10 MGTPRXN2_216, B4 MGTPTXP0_216, B6 MGTPTXP2_216, B8 MGTPRXP0_216, B10 MGTPRXP2_216, C5 MGTPTXN1_216, C7 MGTPTXN3_216, C9 MGTPRXN3_216, C11 MGTPRXN1_216, D5 MGTPTXP1_216, D7 MGTPTXP3_216, D9 MGTPRXP3_216, D11 MGTPRXP1_216, E6 MGTREFCLK0N_216, E10 MGTREFCLK1N_216, F6 MGTREFCLK0P_216, F10 MGTREFCLK1P_216
part E pins: B5 MGTAVTT, B7 MGTAVTT, B9 MGTAVTT, B11 MGTAVTT, C4 MGTAVTT, C8 MGTAVTT, D6 MGTAVCC, D10 MGTAVCC, E8 MGTAVCC, F7 MGTAVCC, F8 MGTRREF_216, F9 MGTAVCC
part F pins: F12 VCCO_0, G11 DONE_0, L9 VREFN_0, L10 VP_0, L12 CCLK_0, M9 VN_0, M10 VREFP_0, N9 DXN_0, N10 DXP_0, N12 PROGRAM_B_0, R13 TDI_0, T12 VCCO_0, T13 TMS_0, U8 CFGBVS_0, U9 M2_0, U10 M1_0, U11 M0_0, U12 INIT_B_0, U13 TDO_0, V12 TCK_0
part G pins: A2 GND, A3 GND, A5 GND, A7 GND, A9 GND, A11 GND, A12 GND, A22 GND, AA2 GND, AA12 GND, AA22 GND, AB9 GND, AB19 GND, B3 GND, B12 GND, B19 GND, C3 GND, C6 GND, C10 GND, C12 GND, C16 GND, D3 GND, D4 GND, D8 GND, D12 GND, D13 GND, E4 GND, E5 GND, E7 GND, E9 GND, E11 GND, E12 VCCBATT_0, E20 GND, F5 GND, F11 GND, F17 GND, G5 GND, G6 GND, G7 GND, G8 GND, G9 GND, G10 GND, G12 GND, G14 GND, H1 GND, H7 GND, H8 VCCINT, H9 GND, H10 VCCINT, H11 GND, H12 VCCAUX, H21 GND, J7 VCCINT, J8 GND, J9 VCCINT, J10 GND, J11 VCCBRAM, J12 GND, J18 GND, K5 GND, K7 GND, K8 VCCINT, K9 GNDADC_0, K10 VCCADC_0, K11 GND, K12 VCCAUX, K15 GND, L2 GND, L7 VCCINT, L8 GND, L11 VCCBRAM, L22 GND, M7 GND, M8 VCCINT, M11 GND, M12 VCCAUX, M19 GND, N6 GND, N7 VCCINT, N8 GND, N11 VCCBRAM, N16 GND, P3 GND, P7 GND, P8 VCCINT, P9 GND, P10 VCCINT, P11 GND, P12 VCCAUX, P13 GND, R7 VCCINT, R8 GND, R9 VCCINT, R10 GND, R11 VCCAUX, R12 GND, R20 GND, T7 GND, T8 VCCINT, T9 GND, T10 VCCINT, T11 GND, T17 GND, U4 GND, U14 GND, V1 GND, V11 GND, V21 GND, W8 GND, W18 GND, Y5 GND, Y15 GND

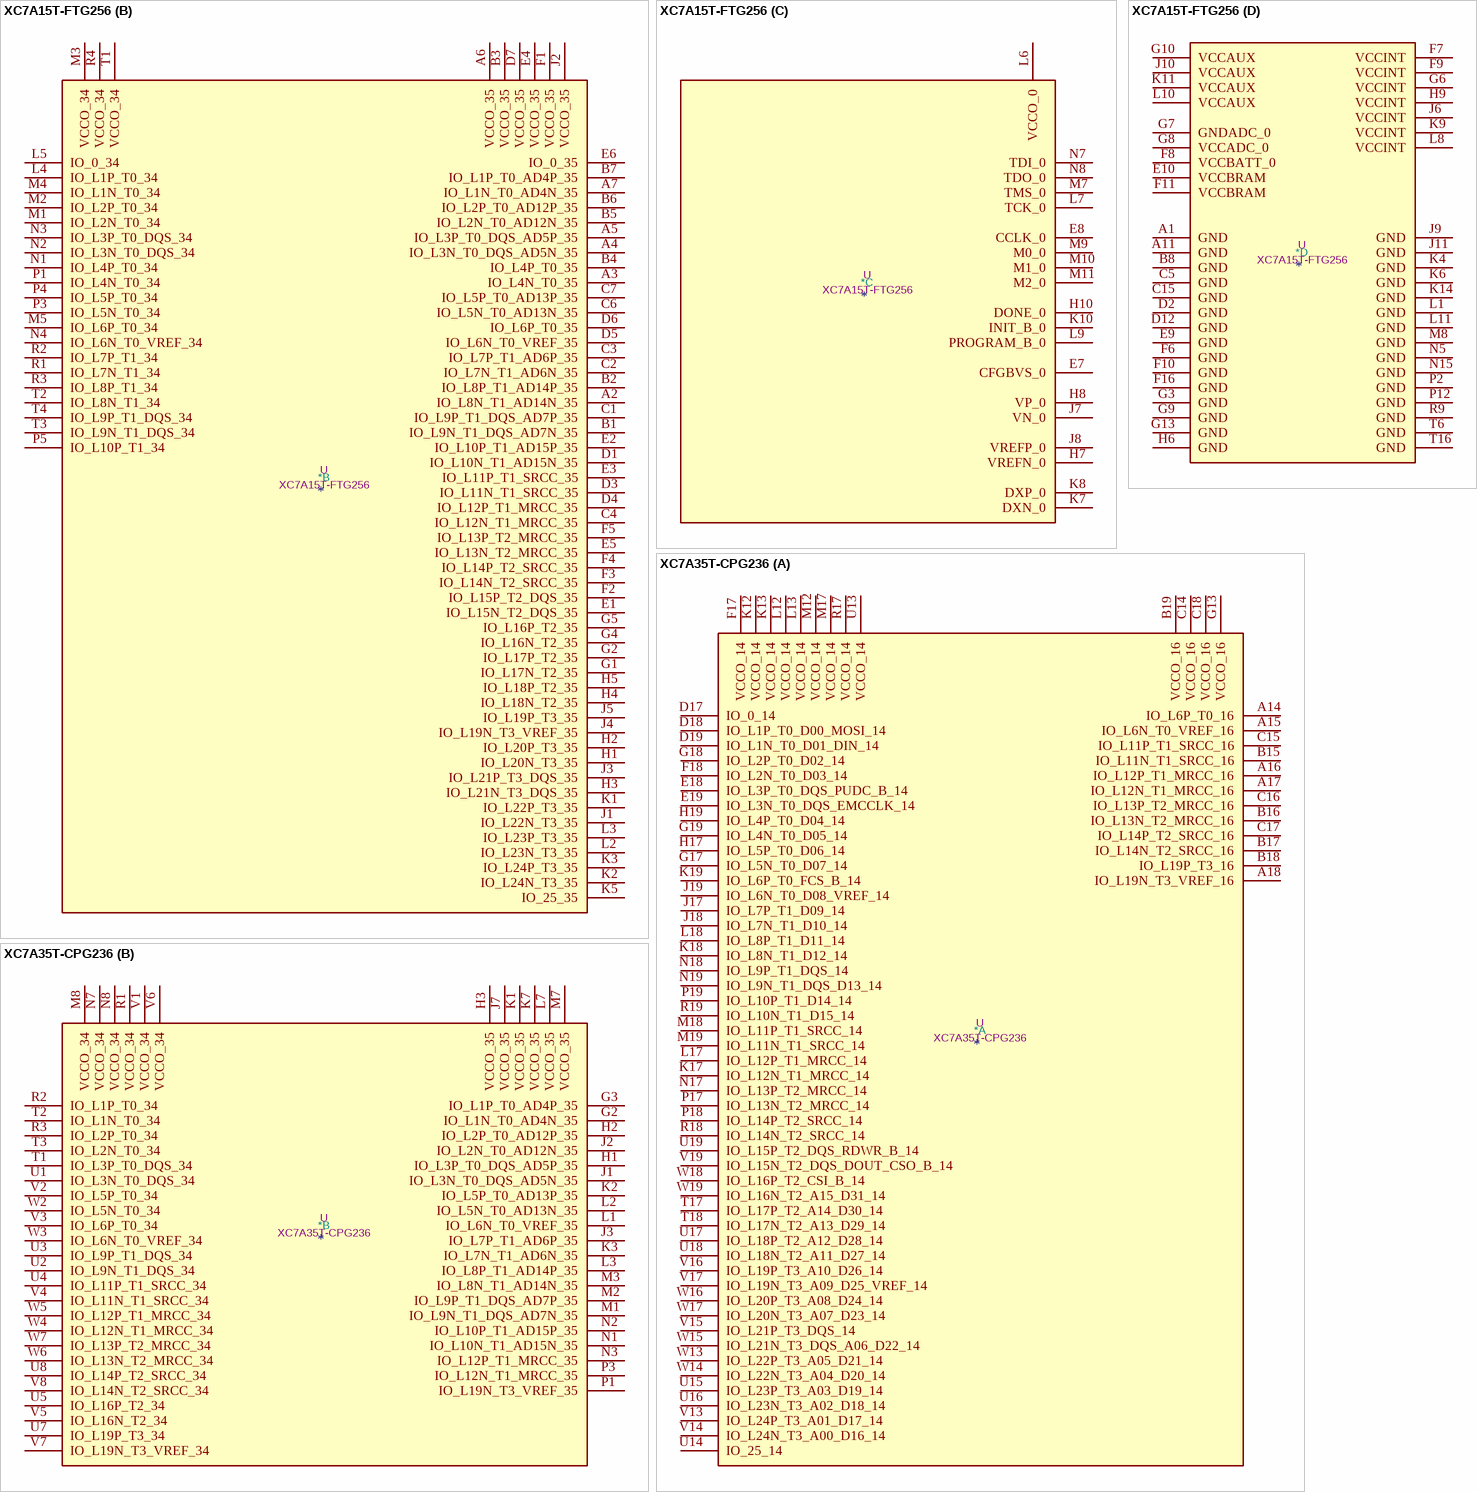
[diagram p7: symbols XC7A15T-FTG256 to XC7A35T-CPG236]

## XC7A15T-FTG256
designator *  value XC7A15T-FTG256  Reference: U
Artix 7 T 15 XC7A15T-FTG256; ki_keywords: FPGA; Description_: Artix 7 T 15 XC7A15T-FTG256
part A pins: A8 IO_L2P_T0_AD8P_15, A9 IO_L2N_T0_AD8N_15, A10 IO_L3N_T0_DQS_AD1N_15, A12 IO_L5N_T0_AD9N_15, A13 IO_L7P_T1_AD2P_15, A14 IO_L7N_T1_AD2N_15, A15 IO_L9N_T1_DQS_AD3N_15, A16 VCCO_15, B9 IO_L3P_T0_DQS_AD1P_15, B10 IO_L4P_T0_15, B11 IO_L4N_T0_15, B12 IO_L5P_T0_AD9P_15, B13 VCCO_15, B14 IO_L8N_T1_AD10N_15, B15 IO_L9P_T1_DQS_AD3P_15, B16 IO_L10N_T1_AD11N_15, C8 IO_L1P_T0_AD0P_15, C9 IO_L1N_T0_AD0N_15, C10 VCCO_15, C11 IO_L11P_T1_SRCC_15, C12 IO_L11N_T1_SRCC_15, C13 IO_L12N_T1_MRCC_15, C14 IO_L8P_T1_AD10P_15, C16 IO_L10P_T1_AD11P_15, D8 IO_L6P_T0_15, D9 IO_L6N_T0_VREF_15, D10 IO_0_15, D11 IO_L14N_T2_SRCC_15, D13 IO_L12P_T1_MRCC_15, D14 IO_L15P_T2_DQS_15, D15 IO_L15N_T2_DQS_ADV_B_15, D16 IO_L17N_T2_A25_15, E11 IO_L14P_T2_SRCC_15, E12 IO_L13P_T2_MRCC_15, E13 IO_L13N_T2_MRCC_15, E14 VCCO_15, E15 IO_L18N_T2_A23_15, E16 IO_L17P_T2_A26_15, F12 IO_L16P_T2_A28_15, F13 IO_L16N_T2_A27_15, F14 IO_L21N_T3_DQS_A18_15, F15 IO_L18P_T2_A24_15, G11 IO_25_15, G12 IO_L19N_T3_A21_VREF_15, G14 IO_L21P_T3_DQS_15, G15 IO_L24N_T3_RS0_15, G16 IO_L22N_T3_A16_15, H11 IO_L19P_T3_A22_15, H12 IO_L20P_T3_A20_15, H13 IO_L20N_T3_A19_15, H14 IO_L24P_T3_RS1_15, H15 VCCO_15, H16 IO_L22P_T3_A17_15, J12 VCCO_15, J13 IO_L1P_T0_D00_MOSI_14, J14 IO_L1N_T0_D01_DIN_14, J15 IO_L23P_T3_FOE_B_15, J16 IO_L23N_T3_FWE_B_15, K12 IO_0_14, K13 IO_L5P_T0_D06_14, K15 IO_L2P_T0_D02_14, K16 IO_L2N_T0_D03_14, L12 IO_L6P_T0_FCS_B_14, L13 IO_L5N_T0_D07_14, L14 IO_L4P_T0_D04_14, L15 IO_L3P_T0_DQS_PUDC_B_14, L16 VCCO_14, M6 IO_L19P_T3_A10_D26_14, M12 IO_L6N_T0_D08_VREF_14, M13 VCCO_14, M14 IO_L4N_T0_D05_14, M15 IO_L3N_T0_DQS_EMCCLK_14, M16 IO_L7P_T1_D09_14, N6 IO_L19N_T3_A09_D25_VREF_14, N9 IO_L18P_T2_A12_D28_14, N10 VCCO_14, N11 IO_L13P_T2_MRCC_14, N12 IO_L13N_T2_MRCC_14, N13 IO_L11P_T1_SRCC_14, N14 IO_L12P_T1_MRCC_14, N16 IO_L7N_T1_D10_14, P6 IO_25_14, P7 VCCO_14, P8 IO_L20P_T3_A08_D24_14, P9 IO_L18N_T2_A11_D27_14, P10 IO_L14P_T2_SRCC_14, P11 IO_L14N_T2_SRCC_14, P13 IO_L11N_T1_SRCC_14, P14 IO_L12N_T1_MRCC_14, P15 IO_L8P_T1_D11_14, P16 IO_L8N_T1_D12_14, R5 IO_L23P_T3_A03_D19_14, R6 IO_L24P_T3_A01_D17_14, R7 IO_L24N_T3_A00_D16_14, R8 IO_L20N_T3_A07_D23_14, R10 IO_L17P_T2_A14_D30_14, R11 IO_L17N_T2_A13_D29_14, R12 IO_L15P_T2_DQS_RDWR_B_14, R13 IO_L16P_T2_CSI_B_14, R14 VCCO_14, R15 IO_L9P_T1_DQS_14, R16 IO_L9N_T1_DQS_D13_14, T5 IO_L23N_T3_A02_D18_14, T7 IO_L21P_T3_DQS_14, T8 IO_L21N_T3_DQS_A06_D22_14, T9 IO_L22P_T3_A05_D21_14, T10 IO_L22N_T3_A04_D20_14, T11 VCCO_14, T12 IO_L15N_T2_DQS_DOUT_CSO_B_14, T13 IO_L16N_T2_A15_D31_14, T14 IO_L10P_T1_D14_14, T15 IO_L10N_T1_D15_14
part B pins: A2 IO_L8N_T1_AD14N_35, A3 IO_L4N_T0_35, A4 IO_L3N_T0_DQS_AD5N_35, A5 IO_L3P_T0_DQS_AD5P_35, A6 VCCO_35, A7 IO_L1N_T0_AD4N_35, B1 IO_L9N_T1_DQS_AD7N_35, B2 IO_L8P_T1_AD14P_35, B3 VCCO_35, B4 IO_L4P_T0_35, B5 IO_L2N_T0_AD12N_35, B6 IO_L2P_T0_AD12P_35, B7 IO_L1P_T0_AD4P_35, C1 IO_L9P_T1_DQS_AD7P_35, C2 IO_L7N_T1_AD6N_35, C3 IO_L7P_T1_AD6P_35, C4 IO_L12N_T1_MRCC_35, C6 IO_L5N_T0_AD13N_35, C7 IO_L5P_T0_AD13P_35, D1 IO_L10N_T1_AD15N_35, D3 IO_L11N_T1_SRCC_35, D4 IO_L12P_T1_MRCC_35, D5 IO_L6N_T0_VREF_35, D6 IO_L6P_T0_35, D7 VCCO_35, E1 IO_L15N_T2_DQS_35, E2 IO_L10P_T1_AD15P_35, E3 IO_L11P_T1_SRCC_35, E4 VCCO_35, E5 IO_L13N_T2_MRCC_35, E6 IO_0_35, F1 VCCO_35, F2 IO_L15P_T2_DQS_35, F3 IO_L14N_T2_SRCC_35, F4 IO_L14P_T2_SRCC_35, F5 IO_L13P_T2_MRCC_35, G1 IO_L17N_T2_35, G2 IO_L17P_T2_35, G4 IO_L16N_T2_35, G5 IO_L16P_T2_35, H1 IO_L20N_T3_35, H2 IO_L20P_T3_35, H3 IO_L21N_T3_DQS_35, H4 IO_L18N_T2_35, H5 IO_L18P_T2_35, J1 IO_L22N_T3_35, J2 VCCO_35, J3 IO_L21P_T3_DQS_35, J4 IO_L19N_T3_VREF_35, J5 IO_L19P_T3_35, K1 IO_L22P_T3_35, K2 IO_L24N_T3_35, K3 IO_L24P_T3_35, K5 IO_25_35, L2 IO_L23N_T3_35, L3 IO_L23P_T3_35, L4 IO_L1P_T0_34, L5 IO_0_34, M1 IO_L2N_T0_34, M2 IO_L2P_T0_34, M3 VCCO_34, M4 IO_L1N_T0_34, M5 IO_L6P_T0_34, N1 IO_L4P_T0_34, N2 IO_L3N_T0_DQS_34, N3 IO_L3P_T0_DQS_34, N4 IO_L6N_T0_VREF_34, P1 IO_L4N_T0_34, P3 IO_L5N_T0_34, P4 IO_L5P_T0_34, P5 IO_L10P_T1_34, R1 IO_L7N_T1_34, R2 IO_L7P_T1_34, R3 IO_L8P_T1_34, R4 VCCO_34, T1 VCCO_34, T2 IO_L8N_T1_34, T3 IO_L9N_T1_DQS_34, T4 IO_L9P_T1_DQS_34
part C pins: E7 CFGBVS_0, E8 CCLK_0, H7 VREFN_0, H8 VP_0, H10 DONE_0, J7 VN_0, J8 VREFP_0, K7 DXN_0, K8 DXP_0, K10 INIT_B_0, L6 VCCO_0, L7 TCK_0, L9 PROGRAM_B_0, M7 TMS_0, M9 M0_0, M10 M1_0, M11 M2_0, N7 TDI_0, N8 TDO_0
part D pins: A1 GND, A11 GND, B8 GND, C5 GND, C15 GND, D2 GND, D12 GND, E9 GND, E10 VCCBRAM, F6 GND, F7 VCCINT, F8 VCCBATT_0, F9 VCCINT, F10 GND, F11 VCCBRAM, F16 GND, G3 GND, G6 VCCINT, G7 GNDADC_0, G8 VCCADC_0, G9 GND, G10 VCCAUX, G13 GND, H6 GND, H9 VCCINT, J6 VCCINT, J9 GND, J10 VCCAUX, J11 GND, K4 GND, K6 GND, K9 VCCINT, K11 VCCAUX, K14 GND, L1 GND, L8 VCCINT, L10 VCCAUX, L11 GND, M8 GND, N5 GND, N15 GND, P2 GND, P12 GND, R9 GND, T6 GND, T16 GND

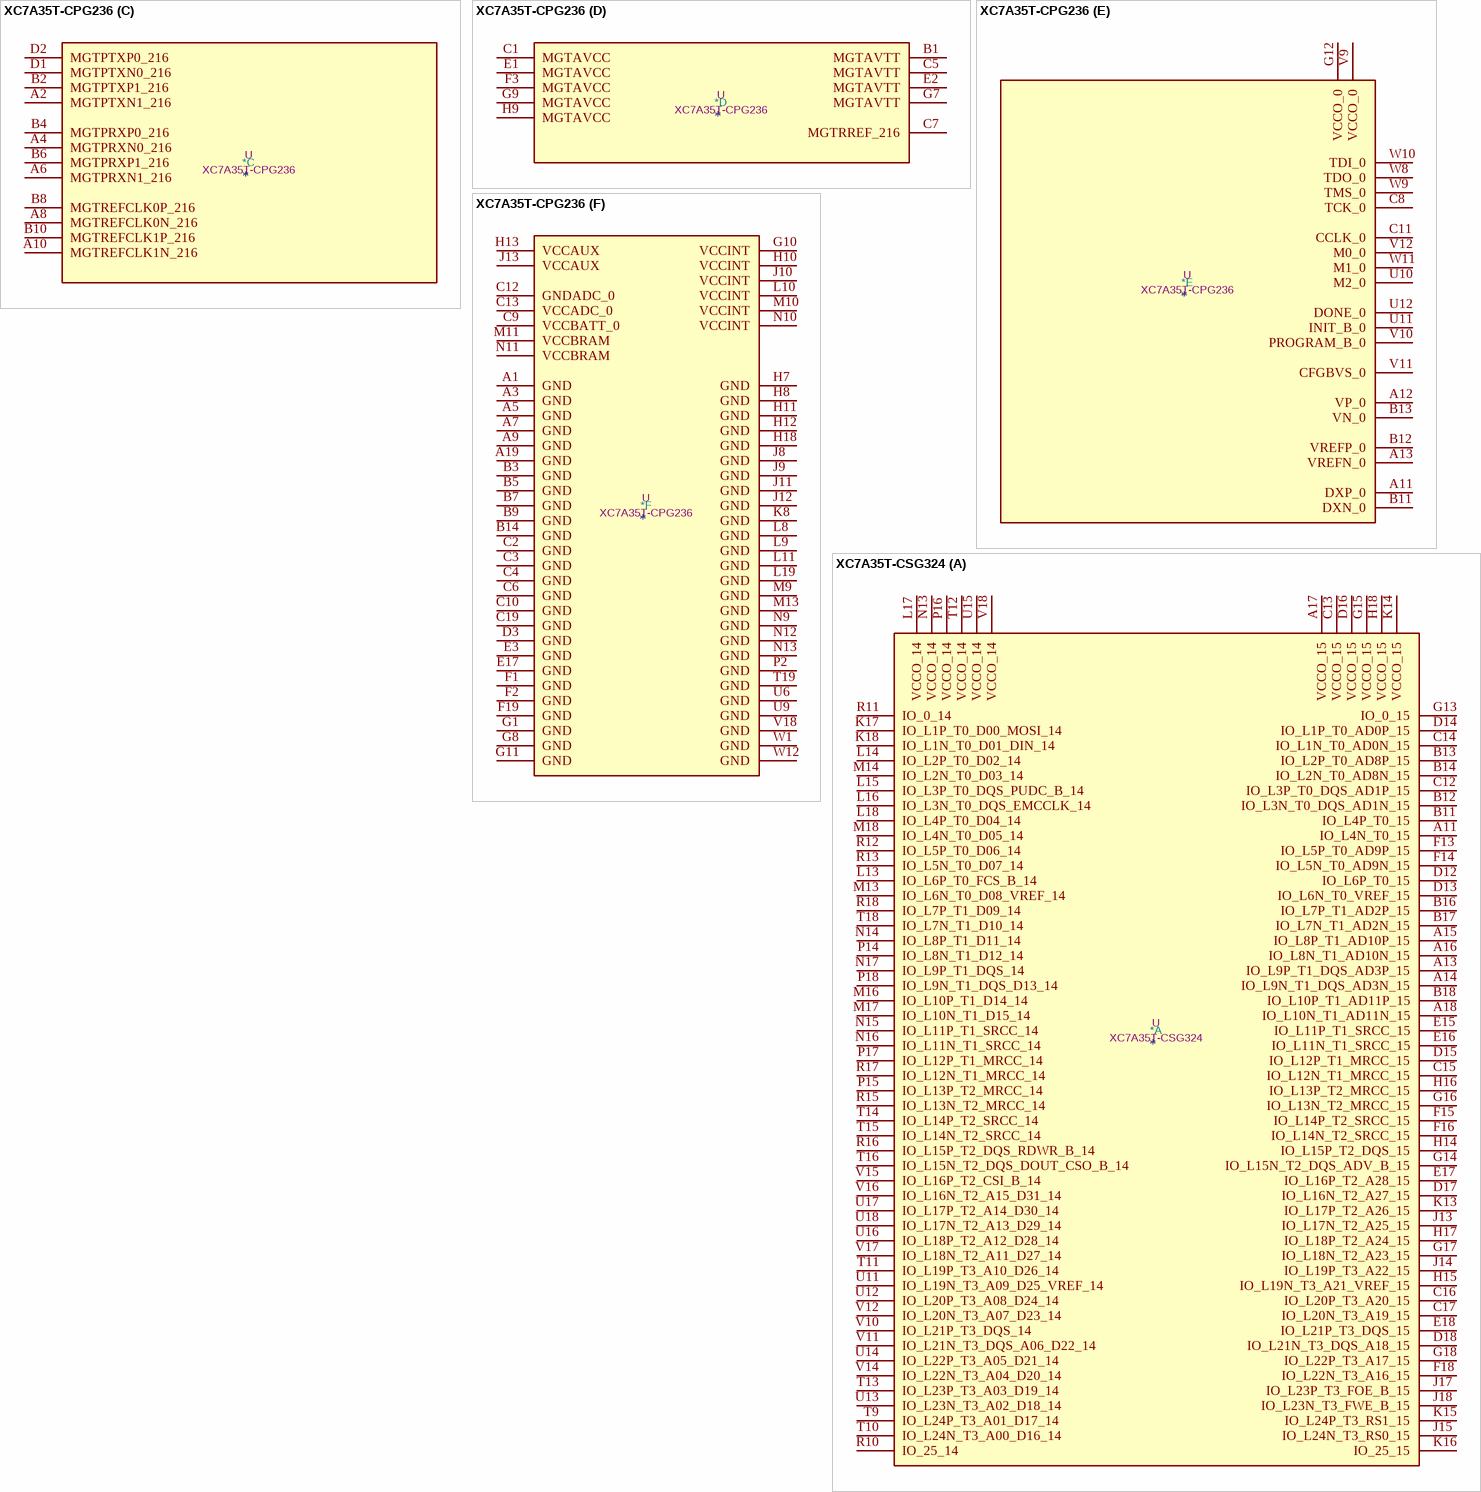
[diagram p8: symbols XC7A35T-CPG236 to XC7A35T-CSG324]

## XC7A35T-CPG236
designator *  value XC7A35T-CPG236  Reference: U
Artix 7 T 35 XC7A35T-CPG236; ki_keywords: FPGA; Description_: Artix 7 T 35 XC7A35T-CPG236
part A pins: A14 IO_L6P_T0_16, A15 IO_L6N_T0_VREF_16, A16 IO_L12P_T1_MRCC_16, A17 IO_L12N_T1_MRCC_16, A18 IO_L19N_T3_VREF_16, B15 IO_L11N_T1_SRCC_16, B16 IO_L13N_T2_MRCC_16, B17 IO_L14N_T2_SRCC_16, B18 IO_L19P_T3_16, B19 VCCO_16, C14 VCCO_16, C15 IO_L11P_T1_SRCC_16, C16 IO_L13P_T2_MRCC_16, C17 IO_L14P_T2_SRCC_16, C18 VCCO_16, D17 IO_0_14, D18 IO_L1P_T0_D00_MOSI_14, D19 IO_L1N_T0_D01_DIN_14, E18 IO_L3P_T0_DQS_PUDC_B_14, E19 IO_L3N_T0_DQS_EMCCLK_14, F17 VCCO_14, F18 IO_L2N_T0_D03_14, G13 VCCO_16, G17 IO_L5N_T0_D07_14, G18 IO_L2P_T0_D02_14, G19 IO_L4N_T0_D05_14, H17 IO_L5P_T0_D06_14, H19 IO_L4P_T0_D04_14, J17 IO_L7P_T1_D09_14, J18 IO_L7N_T1_D10_14, J19 IO_L6N_T0_D08_VREF_14, K12 VCCO_14, K13 VCCO_14, K17 IO_L12N_T1_MRCC_14, K18 IO_L8N_T1_D12_14, K19 IO_L6P_T0_FCS_B_14, L12 VCCO_14, L13 VCCO_14, L17 IO_L12P_T1_MRCC_14, L18 IO_L8P_T1_D11_14, M12 VCCO_14, M17 VCCO_14, M18 IO_L11P_T1_SRCC_14, M19 IO_L11N_T1_SRCC_14, N17 IO_L13P_T2_MRCC_14, N18 IO_L9P_T1_DQS_14, N19 IO_L9N_T1_DQS_D13_14, P17 IO_L13N_T2_MRCC_14, P18 IO_L14P_T2_SRCC_14, P19 IO_L10P_T1_D14_14, R17 VCCO_14, R18 IO_L14N_T2_SRCC_14, R19 IO_L10N_T1_D15_14, T17 IO_L17P_T2_A14_D30_14, T18 IO_L17N_T2_A13_D29_14, U13 VCCO_14, U14 IO_25_14, U15 IO_L23P_T3_A03_D19_14, U16 IO_L23N_T3_A02_D18_14, U17 IO_L18P_T2_A12_D28_14, U18 IO_L18N_T2_A11_D27_14, U19 IO_L15P_T2_DQS_RDWR_B_14, V13 IO_L24P_T3_A01_D17_14, V14 IO_L24N_T3_A00_D16_14, V15 IO_L21P_T3_DQS_14, V16 IO_L19P_T3_A10_D26_14, V17 IO_L19N_T3_A09_D25_VREF_14, V19 IO_L15N_T2_DQS_DOUT_CSO_B_14, W13 IO_L22P_T3_A05_D21_14, W14 IO_L22N_T3_A04_D20_14, W15 IO_L21N_T3_DQS_A06_D22_14, W16 IO_L20P_T3_A08_D24_14, W17 IO_L20N_T3_A07_D23_14, W18 IO_L16P_T2_CSI_B_14, W19 IO_L16N_T2_A15_D31_14
part B pins: G2 IO_L1N_T0_AD4N_35, G3 IO_L1P_T0_AD4P_35, H1 IO_L3P_T0_DQS_AD5P_35, H2 IO_L2P_T0_AD12P_35, H3 VCCO_35, J1 IO_L3N_T0_DQS_AD5N_35, J2 IO_L2N_T0_AD12N_35, J3 IO_L7P_T1_AD6P_35, J7 VCCO_35, K1 VCCO_35, K2 IO_L5P_T0_AD13P_35, K3 IO_L7N_T1_AD6N_35, K7 VCCO_35, L1 IO_L6N_T0_VREF_35, L2 IO_L5N_T0_AD13N_35, L3 IO_L8P_T1_AD14P_35, L7 VCCO_35, M1 IO_L9N_T1_DQS_AD7N_35, M2 IO_L9P_T1_DQS_AD7P_35, M3 IO_L8N_T1_AD14N_35, M7 VCCO_35, M8 VCCO_34, N1 IO_L10N_T1_AD15N_35, N2 IO_L10P_T1_AD15P_35, N3 IO_L12P_T1_MRCC_35, N7 VCCO_34, N8 VCCO_34, P1 IO_L19N_T3_VREF_35, P3 IO_L12N_T1_MRCC_35, R1 VCCO_34, R2 IO_L1P_T0_34, R3 IO_L2P_T0_34, T1 IO_L3P_T0_DQS_34, T2 IO_L1N_T0_34, T3 IO_L2N_T0_34, U1 IO_L3N_T0_DQS_34, U2 IO_L9N_T1_DQS_34, U3 IO_L9P_T1_DQS_34, U4 IO_L11P_T1_SRCC_34, U5 IO_L16P_T2_34, U7 IO_L19P_T3_34, U8 IO_L14P_T2_SRCC_34, V1 VCCO_34, V2 IO_L5P_T0_34, V3 IO_L6P_T0_34, V4 IO_L11N_T1_SRCC_34, V5 IO_L16N_T2_34, V6 VCCO_34, V7 IO_L19N_T3_VREF_34, V8 IO_L14N_T2_SRCC_34, W2 IO_L5N_T0_34, W3 IO_L6N_T0_VREF_34, W4 IO_L12N_T1_MRCC_34, W5 IO_L12P_T1_MRCC_34, W6 IO_L13N_T2_MRCC_34, W7 IO_L13P_T2_MRCC_34
part C pins: A2 MGTPTXN1_216, A4 MGTPRXN0_216, A6 MGTPRXN1_216, A8 MGTREFCLK0N_216, A10 MGTREFCLK1N_216, B2 MGTPTXP1_216, B4 MGTPRXP0_216, B6 MGTPRXP1_216, B8 MGTREFCLK0P_216, B10 MGTREFCLK1P_216, D1 MGTPTXN0_216, D2 MGTPTXP0_216
part D pins: B1 MGTAVTT, C1 MGTAVCC, C5 MGTAVTT, C7 MGTRREF_216, E1 MGTAVCC, E2 MGTAVTT, F3 MGTAVCC, G7 MGTAVTT, G9 MGTAVCC, H9 MGTAVCC
part E pins: A11 DXP_0, A12 VP_0, A13 VREFN_0, B11 DXN_0, B12 VREFP_0, B13 VN_0, C8 TCK_0, C11 CCLK_0, G12 VCCO_0, U10 M2_0, U11 INIT_B_0, U12 DONE_0, V9 VCCO_0, V10 PROGRAM_B_0, V11 CFGBVS_0, V12 M0_0, W8 TDO_0, W9 TMS_0, W10 TDI_0, W11 M1_0
part F pins: A1 GND, A3 GND, A5 GND, A7 GND, A9 GND, A19 GND, B3 GND, B5 GND, B7 GND, B9 GND, B14 GND, C2 GND, C3 GND, C4 GND, C6 GND, C9 VCCBATT_0, C10 GND, C12 GNDADC_0, C13 VCCADC_0, C19 GND, D3 GND, E3 GND, E17 GND, F1 GND, F2 GND, F19 GND, G1 GND, G8 GND, G10 VCCINT, G11 GND, H7 GND, H8 GND, H10 VCCINT, H11 GND, H12 GND, H13 VCCAUX, H18 GND, J8 GND, J9 GND, J10 VCCINT, J11 GND, J12 GND, J13 VCCAUX, K8 GND, L8 GND, L9 GND, L10 VCCINT, L11 GND, L19 GND, M9 GND, M10 VCCINT, M11 VCCBRAM, M13 GND, N9 GND, N10 VCCINT, N11 VCCBRAM, N12 GND, N13 GND, P2 GND, T19 GND, U6 GND, U9 GND, V18 GND, W1 GND, W12 GND

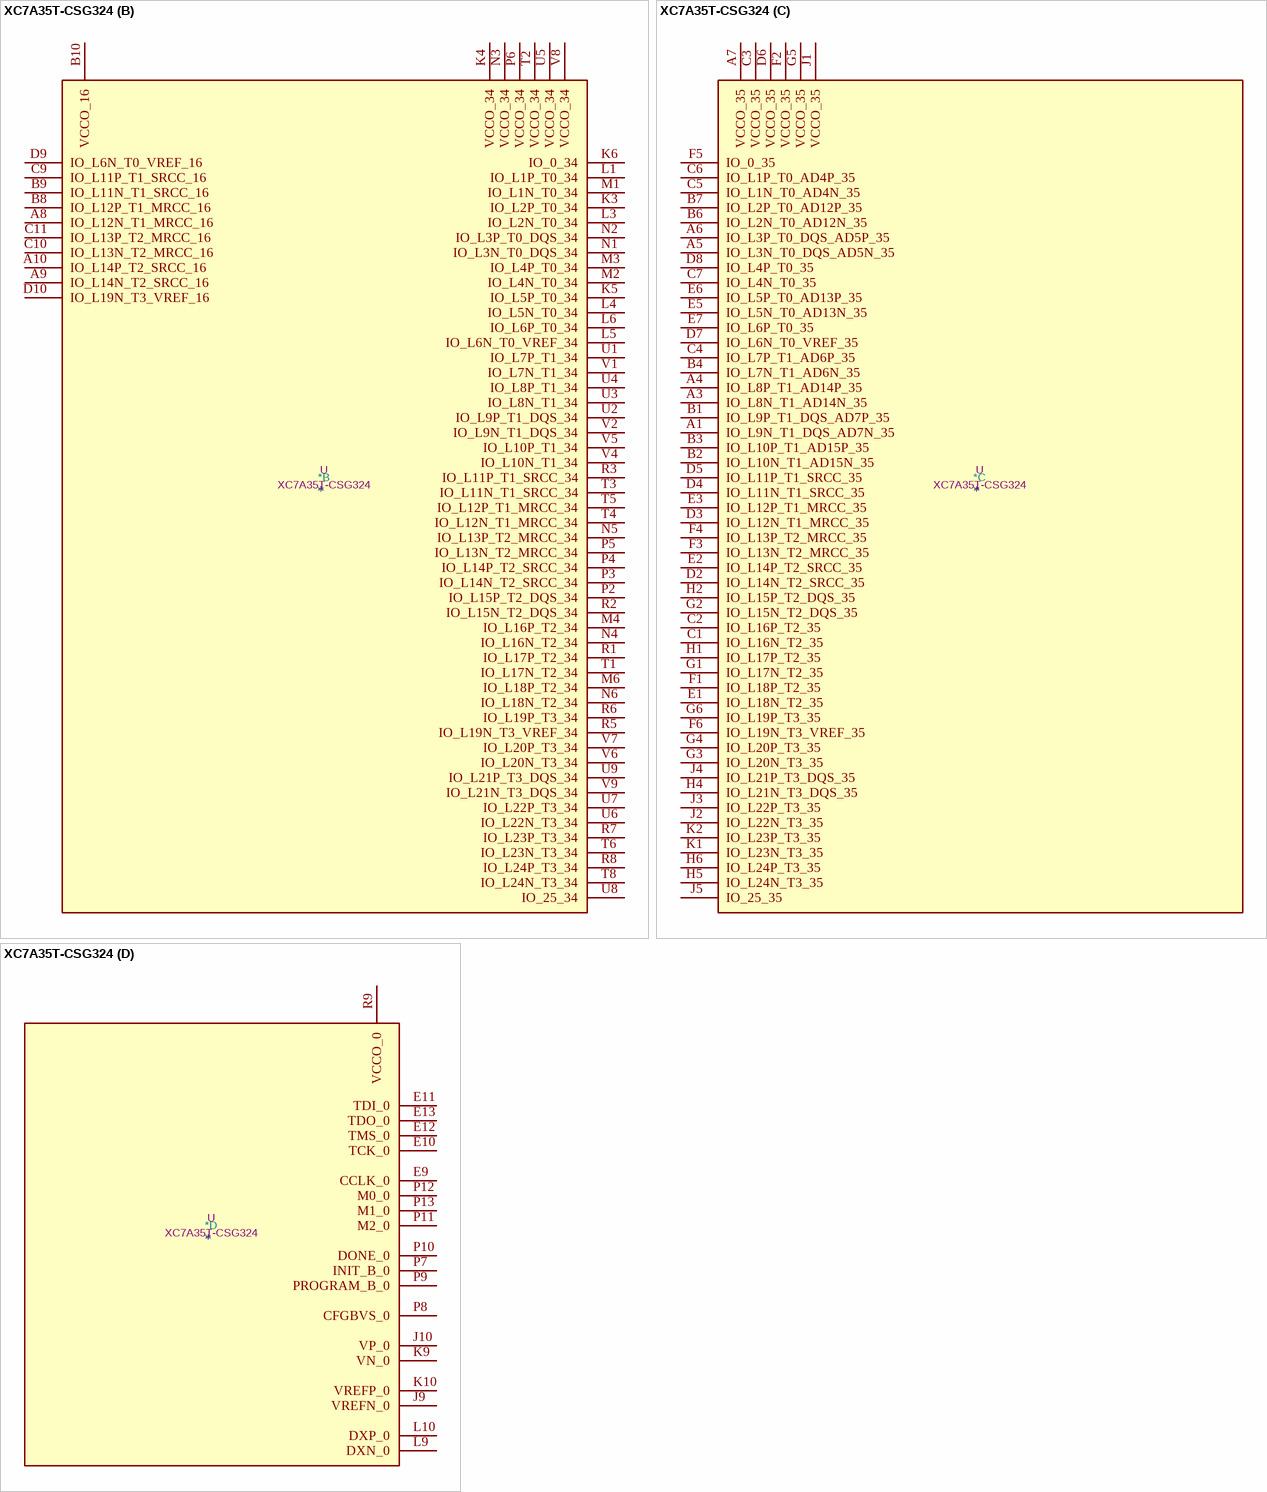
[diagram p9: symbol XC7A35T-CSG324]

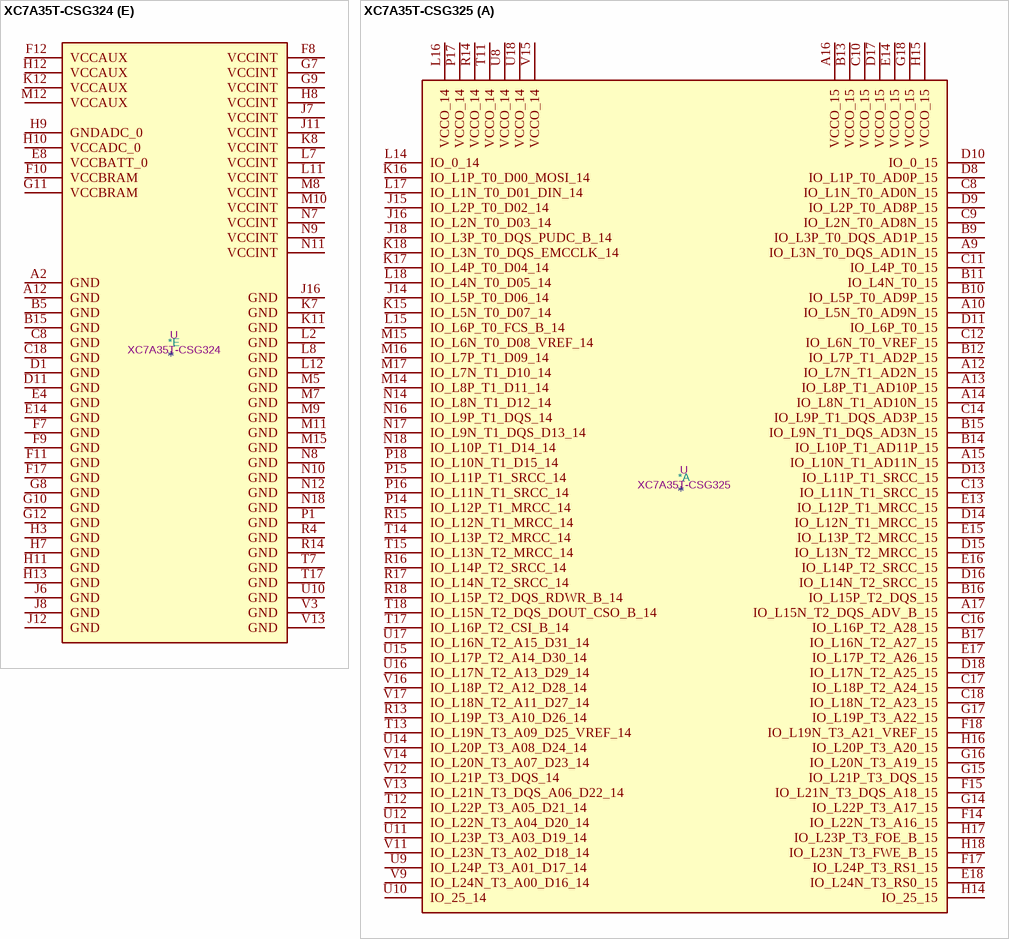
[diagram p10: symbols XC7A35T-CSG324 to XC7A35T-CSG325]

## XC7A35T-CSG324
designator *  value XC7A35T-CSG324  Reference: U
Artix 7 T 35 XC7A35T-CSG324; ki_keywords: FPGA; Description_: Artix 7 T 35 XC7A35T-CSG324
part A pins: A11 IO_L4N_T0_15, A13 IO_L9P_T1_DQS_AD3P_15, A14 IO_L9N_T1_DQS_AD3N_15, A15 IO_L8P_T1_AD10P_15, A16 IO_L8N_T1_AD10N_15, A17 VCCO_15, A18 IO_L10N_T1_AD11N_15, B11 IO_L4P_T0_15, B12 IO_L3N_T0_DQS_AD1N_15, B13 IO_L2P_T0_AD8P_15, B14 IO_L2N_T0_AD8N_15, B16 IO_L7P_T1_AD2P_15, B17 IO_L7N_T1_AD2N_15, B18 IO_L10P_T1_AD11P_15, C12 IO_L3P_T0_DQS_AD1P_15, C13 VCCO_15, C14 IO_L1N_T0_AD0N_15, C15 IO_L12N_T1_MRCC_15, C16 IO_L20P_T3_A20_15, C17 IO_L20N_T3_A19_15, D12 IO_L6P_T0_15, D13 IO_L6N_T0_VREF_15, D14 IO_L1P_T0_AD0P_15, D15 IO_L12P_T1_MRCC_15, D16 VCCO_15, D17 IO_L16N_T2_A27_15, D18 IO_L21N_T3_DQS_A18_15, E15 IO_L11P_T1_SRCC_15, E16 IO_L11N_T1_SRCC_15, E17 IO_L16P_T2_A28_15, E18 IO_L21P_T3_DQS_15, F13 IO_L5P_T0_AD9P_15, F14 IO_L5N_T0_AD9N_15, F15 IO_L14P_T2_SRCC_15, F16 IO_L14N_T2_SRCC_15, F18 IO_L22N_T3_A16_15, G13 IO_0_15, G14 IO_L15N_T2_DQS_ADV_B_15, G15 VCCO_15, G16 IO_L13N_T2_MRCC_15, G17 IO_L18N_T2_A23_15, G18 IO_L22P_T3_A17_15, H14 IO_L15P_T2_DQS_15, H15 IO_L19N_T3_A21_VREF_15, H16 IO_L13P_T2_MRCC_15, H17 IO_L18P_T2_A24_15, H18 VCCO_15, J13 IO_L17N_T2_A25_15, J14 IO_L19P_T3_A22_15, J15 IO_L24N_T3_RS0_15, J17 IO_L23P_T3_FOE_B_15, J18 IO_L23N_T3_FWE_B_15, K13 IO_L17P_T2_A26_15, K14 VCCO_15, K15 IO_L24P_T3_RS1_15, K16 IO_25_15, K17 IO_L1P_T0_D00_MOSI_14, K18 IO_L1N_T0_D01_DIN_14, L13 IO_L6P_T0_FCS_B_14, L14 IO_L2P_T0_D02_14, L15 IO_L3P_T0_DQS_PUDC_B_14, L16 IO_L3N_T0_DQS_EMCCLK_14, L17 VCCO_14, L18 IO_L4P_T0_D04_14, M13 IO_L6N_T0_D08_VREF_14, M14 IO_L2N_T0_D03_14, M16 IO_L10P_T1_D14_14, M17 IO_L10N_T1_D15_14, M18 IO_L4N_T0_D05_14, N13 VCCO_14, N14 IO_L8P_T1_D11_14, N15 IO_L11P_T1_SRCC_14, N16 IO_L11N_T1_SRCC_14, N17 IO_L9P_T1_DQS_14, P14 IO_L8N_T1_D12_14, P15 IO_L13P_T2_MRCC_14, P16 VCCO_14, P17 IO_L12P_T1_MRCC_14, P18 IO_L9N_T1_DQS_D13_14, R10 IO_25_14, R11 IO_0_14, R12 IO_L5P_T0_D06_14, R13 IO_L5N_T0_D07_14, R15 IO_L13N_T2_MRCC_14, R16 IO_L15P_T2_DQS_RDWR_B_14, R17 IO_L12N_T1_MRCC_14, R18 IO_L7P_T1_D09_14, T9 IO_L24P_T3_A01_D17_14, T10 IO_L24N_T3_A00_D16_14, T11 IO_L19P_T3_A10_D26_14, T12 VCCO_14, T13 IO_L23P_T3_A03_D19_14, T14 IO_L14P_T2_SRCC_14, T15 IO_L14N_T2_SRCC_14, T16 IO_L15N_T2_DQS_DOUT_CSO_B_14, T18 IO_L7N_T1_D10_14, U11 IO_L19N_T3_A09_D25_VREF_14, U12 IO_L20P_T3_A08_D24_14, U13 IO_L23N_T3_A02_D18_14, U14 IO_L22P_T3_A05_D21_14, U15 VCCO_14, U16 IO_L18P_T2_A12_D28_14, U17 IO_L17P_T2_A14_D30_14, U18 IO_L17N_T2_A13_D29_14, V10 IO_L21P_T3_DQS_14, V11 IO_L21N_T3_DQS_A06_D22_14, V12 IO_L20N_T3_A07_D23_14, V14 IO_L22N_T3_A04_D20_14, V15 IO_L16P_T2_CSI_B_14, V16 IO_L16N_T2_A15_D31_14, V17 IO_L18N_T2_A11_D27_14, V18 VCCO_14
part B pins: A8 IO_L12N_T1_MRCC_16, A9 IO_L14N_T2_SRCC_16, A10 IO_L14P_T2_SRCC_16, B8 IO_L12P_T1_MRCC_16, B9 IO_L11N_T1_SRCC_16, B10 VCCO_16, C9 IO_L11P_T1_SRCC_16, C10 IO_L13N_T2_MRCC_16, C11 IO_L13P_T2_MRCC_16, D9 IO_L6N_T0_VREF_16, D10 IO_L19N_T3_VREF_16, K3 IO_L2P_T0_34, K4 VCCO_34, K5 IO_L5P_T0_34, K6 IO_0_34, L1 IO_L1P_T0_34, L3 IO_L2N_T0_34, L4 IO_L5N_T0_34, L5 IO_L6N_T0_VREF_34, L6 IO_L6P_T0_34, M1 IO_L1N_T0_34, M2 IO_L4N_T0_34, M3 IO_L4P_T0_34, M4 IO_L16P_T2_34, M6 IO_L18P_T2_34, N1 IO_L3N_T0_DQS_34, N2 IO_L3P_T0_DQS_34, N3 VCCO_34, N4 IO_L16N_T2_34, N5 IO_L13P_T2_MRCC_34, N6 IO_L18N_T2_34, P2 IO_L15P_T2_DQS_34, P3 IO_L14N_T2_SRCC_34, P4 IO_L14P_T2_SRCC_34, P5 IO_L13N_T2_MRCC_34, P6 VCCO_34, R1 IO_L17P_T2_34, R2 IO_L15N_T2_DQS_34, R3 IO_L11P_T1_SRCC_34, R5 IO_L19N_T3_VREF_34, R6 IO_L19P_T3_34, R7 IO_L23P_T3_34, R8 IO_L24P_T3_34, T1 IO_L17N_T2_34, T2 VCCO_34, T3 IO_L11N_T1_SRCC_34, T4 IO_L12N_T1_MRCC_34, T5 IO_L12P_T1_MRCC_34, T6 IO_L23N_T3_34, T8 IO_L24N_T3_34, U1 IO_L7P_T1_34, U2 IO_L9P_T1_DQS_34, U3 IO_L8N_T1_34, U4 IO_L8P_T1_34, U5 VCCO_34, U6 IO_L22N_T3_34, U7 IO_L22P_T3_34, U8 IO_25_34, U9 IO_L21P_T3_DQS_34, V1 IO_L7N_T1_34, V2 IO_L9N_T1_DQS_34, V4 IO_L10N_T1_34, V5 IO_L10P_T1_34, V6 IO_L20N_T3_34, V7 IO_L20P_T3_34, V8 VCCO_34, V9 IO_L21N_T3_DQS_34
part C pins: A1 IO_L9N_T1_DQS_AD7N_35, A3 IO_L8N_T1_AD14N_35, A4 IO_L8P_T1_AD14P_35, A5 IO_L3N_T0_DQS_AD5N_35, A6 IO_L3P_T0_DQS_AD5P_35, A7 VCCO_35, B1 IO_L9P_T1_DQS_AD7P_35, B2 IO_L10N_T1_AD15N_35, B3 IO_L10P_T1_AD15P_35, B4 IO_L7N_T1_AD6N_35, B6 IO_L2N_T0_AD12N_35, B7 IO_L2P_T0_AD12P_35, C1 IO_L16N_T2_35, C2 IO_L16P_T2_35, C3 VCCO_35, C4 IO_L7P_T1_AD6P_35, C5 IO_L1N_T0_AD4N_35, C6 IO_L1P_T0_AD4P_35, C7 IO_L4N_T0_35, D2 IO_L14N_T2_SRCC_35, D3 IO_L12N_T1_MRCC_35, D4 IO_L11N_T1_SRCC_35, D5 IO_L11P_T1_SRCC_35, D6 VCCO_35, D7 IO_L6N_T0_VREF_35, D8 IO_L4P_T0_35, E1 IO_L18N_T2_35, E2 IO_L14P_T2_SRCC_35, E3 IO_L12P_T1_MRCC_35, E5 IO_L5N_T0_AD13N_35, E6 IO_L5P_T0_AD13P_35, E7 IO_L6P_T0_35, F1 IO_L18P_T2_35, F2 VCCO_35, F3 IO_L13N_T2_MRCC_35, F4 IO_L13P_T2_MRCC_35, F5 IO_0_35, F6 IO_L19N_T3_VREF_35, G1 IO_L17N_T2_35, G2 IO_L15N_T2_DQS_35, G3 IO_L20N_T3_35, G4 IO_L20P_T3_35, G5 VCCO_35, G6 IO_L19P_T3_35, H1 IO_L17P_T2_35, H2 IO_L15P_T2_DQS_35, H4 IO_L21N_T3_DQS_35, H5 IO_L24N_T3_35, H6 IO_L24P_T3_35, J1 VCCO_35, J2 IO_L22N_T3_35, J3 IO_L22P_T3_35, J4 IO_L21P_T3_DQS_35, J5 IO_25_35, K1 IO_L23N_T3_35, K2 IO_L23P_T3_35
part D pins: E9 CCLK_0, E10 TCK_0, E11 TDI_0, E12 TMS_0, E13 TDO_0, J9 VREFN_0, J10 VP_0, K9 VN_0, K10 VREFP_0, L9 DXN_0, L10 DXP_0, P7 INIT_B_0, P8 CFGBVS_0, P9 PROGRAM_B_0, P10 DONE_0, P11 M2_0, P12 M0_0, P13 M1_0, R9 VCCO_0
part E pins: A2 GND, A12 GND, B5 GND, B15 GND, C8 GND, C18 GND, D1 GND, D11 GND, E4 GND, E8 VCCBATT_0, E14 GND, F7 GND, F8 VCCINT, F9 GND, F10 VCCBRAM, F11 GND, F12 VCCAUX, F17 GND, G7 VCCINT, G8 GND, G9 VCCINT, G10 GND, G11 VCCBRAM, G12 GND, H3 GND, H7 GND, H8 VCCINT, H9 GNDADC_0, H10 VCCADC_0, H11 GND, H12 VCCAUX, H13 GND, J6 GND, J7 VCCINT, J8 GND, J11 VCCINT, J12 GND, J16 GND, K7 GND, K8 VCCINT, K11 GND, K12 VCCAUX, L2 GND, L7 VCCINT, L8 GND, L11 VCCINT, L12 GND, M5 GND, M7 GND, M8 VCCINT, M9 GND, M10 VCCINT, M11 GND, M12 VCCAUX, M15 GND, N7 VCCINT, N8 GND, N9 VCCINT, N10 GND, N11 VCCINT, N12 GND, N18 GND, P1 GND, R4 GND, R14 GND, T7 GND, T17 GND, U10 GND, V3 GND, V13 GND

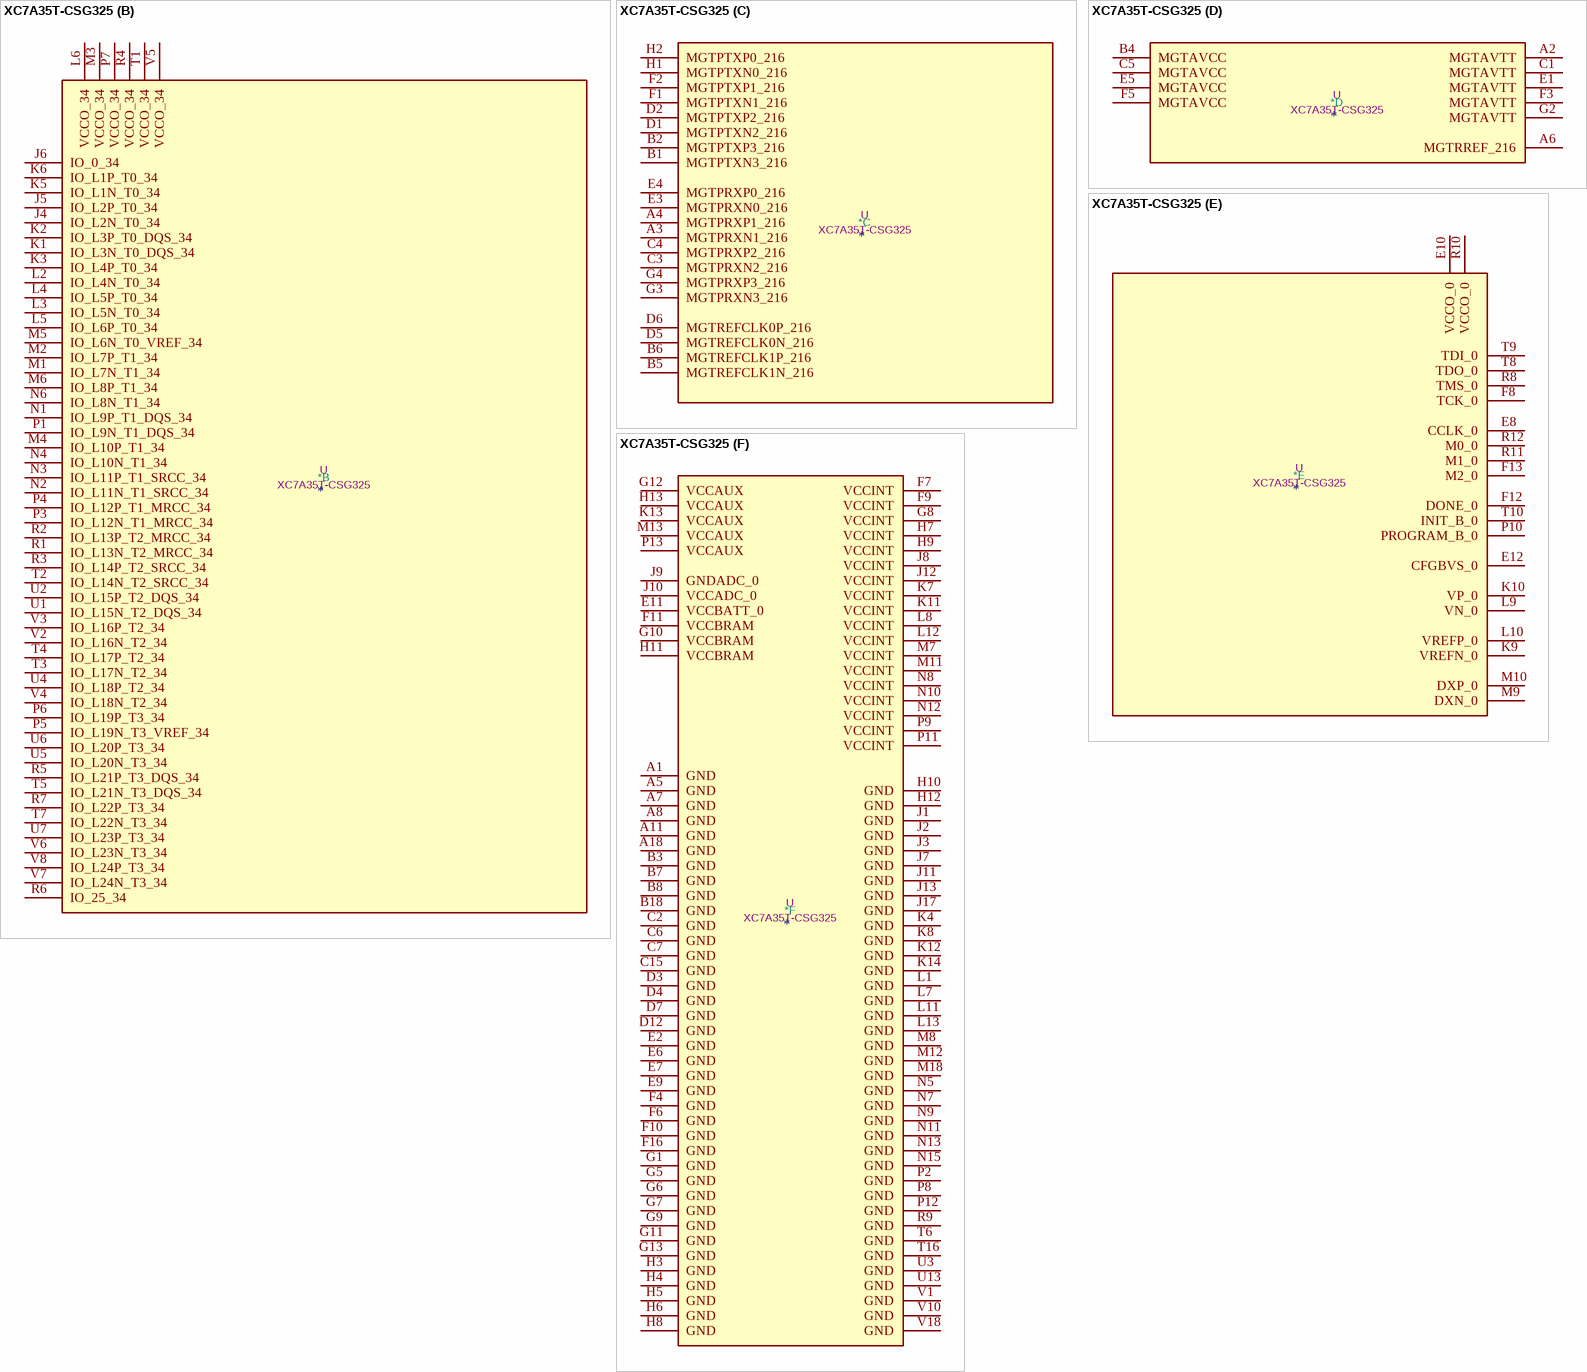
[diagram p11: symbol XC7A35T-CSG325]

## XC7A35T-CSG325
designator *  value XC7A35T-CSG325  Reference: U
Artix 7 T 35 XC7A35T-CSG325; ki_keywords: FPGA; Description_: Artix 7 T 35 XC7A35T-CSG325
part A pins: A9 IO_L3N_T0_DQS_AD1N_15, A10 IO_L5N_T0_AD9N_15, A12 IO_L7N_T1_AD2N_15, A13 IO_L8P_T1_AD10P_15, A14 IO_L8N_T1_AD10N_15, A15 IO_L10N_T1_AD11N_15, A16 VCCO_15, A17 IO_L15N_T2_DQS_ADV_B_15, B9 IO_L3P_T0_DQS_AD1P_15, B10 IO_L5P_T0_AD9P_15, B11 IO_L4N_T0_15, B12 IO_L7P_T1_AD2P_15, B13 VCCO_15, B14 IO_L10P_T1_AD11P_15, B15 IO_L9N_T1_DQS_AD3N_15, B16 IO_L15P_T2_DQS_15, B17 IO_L16N_T2_A27_15, C8 IO_L1N_T0_AD0N_15, C9 IO_L2N_T0_AD8N_15, C10 VCCO_15, C11 IO_L4P_T0_15, C12 IO_L6N_T0_VREF_15, C13 IO_L11N_T1_SRCC_15, C14 IO_L9P_T1_DQS_AD3P_15, C16 IO_L16P_T2_A28_15, C17 IO_L18P_T2_A24_15, C18 IO_L18N_T2_A23_15, D8 IO_L1P_T0_AD0P_15, D9 IO_L2P_T0_AD8P_15, D10 IO_0_15, D11 IO_L6P_T0_15, D13 IO_L11P_T1_SRCC_15, D14 IO_L12N_T1_MRCC_15, D15 IO_L13N_T2_MRCC_15, D16 IO_L14N_T2_SRCC_15, D17 VCCO_15, D18 IO_L17N_T2_A25_15, E13 IO_L12P_T1_MRCC_15, E14 VCCO_15, E15 IO_L13P_T2_MRCC_15, E16 IO_L14P_T2_SRCC_15, E17 IO_L17P_T2_A26_15, E18 IO_L24N_T3_RS0_15, F14 IO_L22N_T3_A16_15, F15 IO_L21N_T3_DQS_A18_15, F17 IO_L24P_T3_RS1_15, F18 IO_L19N_T3_A21_VREF_15, G14 IO_L22P_T3_A17_15, G15 IO_L21P_T3_DQS_15, G16 IO_L20N_T3_A19_15, G17 IO_L19P_T3_A22_15, G18 VCCO_15, H14 IO_25_15, H15 VCCO_15, H16 IO_L20P_T3_A20_15, H17 IO_L23P_T3_FOE_B_15, H18 IO_L23N_T3_FWE_B_15, J14 IO_L5P_T0_D06_14, J15 IO_L2P_T0_D02_14, J16 IO_L2N_T0_D03_14, J18 IO_L3P_T0_DQS_PUDC_B_14, K15 IO_L5N_T0_D07_14, K16 IO_L1P_T0_D00_MOSI_14, K17 IO_L4P_T0_D04_14, K18 IO_L3N_T0_DQS_EMCCLK_14, L14 IO_0_14, L15 IO_L6P_T0_FCS_B_14, L16 VCCO_14, L17 IO_L1N_T0_D01_DIN_14, L18 IO_L4N_T0_D05_14, M14 IO_L8P_T1_D11_14, M15 IO_L6N_T0_D08_VREF_14, M16 IO_L7P_T1_D09_14, M17 IO_L7N_T1_D10_14, N14 IO_L8N_T1_D12_14, N16 IO_L9P_T1_DQS_14, N17 IO_L9N_T1_DQS_D13_14, N18 IO_L10P_T1_D14_14, P14 IO_L12P_T1_MRCC_14, P15 IO_L11P_T1_SRCC_14, P16 IO_L11N_T1_SRCC_14, P17 VCCO_14, P18 IO_L10N_T1_D15_14, R13 IO_L19P_T3_A10_D26_14, R14 VCCO_14, R15 IO_L12N_T1_MRCC_14, R16 IO_L14P_T2_SRCC_14, R17 IO_L14N_T2_SRCC_14, R18 IO_L15P_T2_DQS_RDWR_B_14, T11 VCCO_14, T12 IO_L22P_T3_A05_D21_14, T13 IO_L19N_T3_A09_D25_VREF_14, T14 IO_L13P_T2_MRCC_14, T15 IO_L13N_T2_MRCC_14, T17 IO_L16P_T2_CSI_B_14, T18 IO_L15N_T2_DQS_DOUT_CSO_B_14, U8 VCCO_14, U9 IO_L24P_T3_A01_D17_14, U10 IO_25_14, U11 IO_L23P_T3_A03_D19_14, U12 IO_L22N_T3_A04_D20_14, U14 IO_L20P_T3_A08_D24_14, U15 IO_L17P_T2_A14_D30_14, U16 IO_L17N_T2_A13_D29_14, U17 IO_L16N_T2_A15_D31_14, U18 VCCO_14, V9 IO_L24N_T3_A00_D16_14, V11 IO_L23N_T3_A02_D18_14, V12 IO_L21P_T3_DQS_14, V13 IO_L21N_T3_DQS_A06_D22_14, V14 IO_L20N_T3_A07_D23_14, V15 VCCO_14, V16 IO_L18P_T2_A12_D28_14, V17 IO_L18N_T2_A11_D27_14
part B pins: J4 IO_L2N_T0_34, J5 IO_L2P_T0_34, J6 IO_0_34, K1 IO_L3N_T0_DQS_34, K2 IO_L3P_T0_DQS_34, K3 IO_L4P_T0_34, K5 IO_L1N_T0_34, K6 IO_L1P_T0_34, L2 IO_L4N_T0_34, L3 IO_L5N_T0_34, L4 IO_L5P_T0_34, L5 IO_L6P_T0_34, L6 VCCO_34, M1 IO_L7N_T1_34, M2 IO_L7P_T1_34, M3 VCCO_34, M4 IO_L10P_T1_34, M5 IO_L6N_T0_VREF_34, M6 IO_L8P_T1_34, N1 IO_L9P_T1_DQS_34, N2 IO_L11N_T1_SRCC_34, N3 IO_L11P_T1_SRCC_34, N4 IO_L10N_T1_34, N6 IO_L8N_T1_34, P1 IO_L9N_T1_DQS_34, P3 IO_L12N_T1_MRCC_34, P4 IO_L12P_T1_MRCC_34, P5 IO_L19N_T3_VREF_34, P6 IO_L19P_T3_34, P7 VCCO_34, R1 IO_L13N_T2_MRCC_34, R2 IO_L13P_T2_MRCC_34, R3 IO_L14P_T2_SRCC_34, R4 VCCO_34, R5 IO_L21P_T3_DQS_34, R6 IO_25_34, R7 IO_L22P_T3_34, T1 VCCO_34, T2 IO_L14N_T2_SRCC_34, T3 IO_L17N_T2_34, T4 IO_L17P_T2_34, T5 IO_L21N_T3_DQS_34, T7 IO_L22N_T3_34, U1 IO_L15N_T2_DQS_34, U2 IO_L15P_T2_DQS_34, U4 IO_L18P_T2_34, U5 IO_L20N_T3_34, U6 IO_L20P_T3_34, U7 IO_L23P_T3_34, V2 IO_L16N_T2_34, V3 IO_L16P_T2_34, V4 IO_L18N_T2_34, V5 VCCO_34, V6 IO_L23N_T3_34, V7 IO_L24N_T3_34, V8 IO_L24P_T3_34
part C pins: A3 MGTPRXN1_216, A4 MGTPRXP1_216, B1 MGTPTXN3_216, B2 MGTPTXP3_216, B5 MGTREFCLK1N_216, B6 MGTREFCLK1P_216, C3 MGTPRXN2_216, C4 MGTPRXP2_216, D1 MGTPTXN2_216, D2 MGTPTXP2_216, D5 MGTREFCLK0N_216, D6 MGTREFCLK0P_216, E3 MGTPRXN0_216, E4 MGTPRXP0_216, F1 MGTPTXN1_216, F2 MGTPTXP1_216, G3 MGTPRXN3_216, G4 MGTPRXP3_216, H1 MGTPTXN0_216, H2 MGTPTXP0_216
part D pins: A2 MGTAVTT, A6 MGTRREF_216, B4 MGTAVCC, C1 MGTAVTT, C5 MGTAVCC, E1 MGTAVTT, E5 MGTAVCC, F3 MGTAVTT, F5 MGTAVCC, G2 MGTAVTT
part E pins: E8 CCLK_0, E10 VCCO_0, E12 CFGBVS_0, F8 TCK_0, F12 DONE_0, F13 M2_0, K9 VREFN_0, K10 VP_0, L9 VN_0, L10 VREFP_0, M9 DXN_0, M10 DXP_0, P10 PROGRAM_B_0, R8 TMS_0, R10 VCCO_0, R11 M1_0, R12 M0_0, T8 TDO_0, T9 TDI_0, T10 INIT_B_0
part F pins: A1 GND, A5 GND, A7 GND, A8 GND, A11 GND, A18 GND, B3 GND, B7 GND, B8 GND, B18 GND, C2 GND, C6 GND, C7 GND, C15 GND, D3 GND, D4 GND, D7 GND, D12 GND, E2 GND, E6 GND, E7 GND, E9 GND, E11 VCCBATT_0, F4 GND, F6 GND, F7 VCCINT, F9 VCCINT, F10 GND, F11 VCCBRAM, F16 GND, G1 GND, G5 GND, G6 GND, G7 GND, G8 VCCINT, G9 GND, G10 VCCBRAM, G11 GND, G12 VCCAUX, G13 GND, H3 GND, H4 GND, H5 GND, H6 GND, H7 VCCINT, H8 GND, H9 VCCINT, H10 GND, H11 VCCBRAM, H12 GND, H13 VCCAUX, J1 GND, J2 GND, J3 GND, J7 GND, J8 VCCINT, J9 GNDADC_0, J10 VCCADC_0, J11 GND, J12 VCCINT, J13 GND, J17 GND, K4 GND, K7 VCCINT, K8 GND, K11 VCCINT, K12 GND, K13 VCCAUX, K14 GND, L1 GND, L7 GND, L8 VCCINT, L11 GND, L12 VCCINT, L13 GND, M7 VCCINT, M8 GND, M11 VCCINT, M12 GND, M13 VCCAUX, M18 GND, N5 GND, N7 GND, N8 VCCINT, N9 GND, N10 VCCINT, N11 GND, N12 VCCINT, N13 GND, N15 GND, P2 GND, P8 GND, P9 VCCINT, P11 VCCINT, P12 GND, P13 VCCAUX, R9 GND, T6 GND, T16 GND, U3 GND, U13 GND, V1 GND, V10 GND, V18 GND

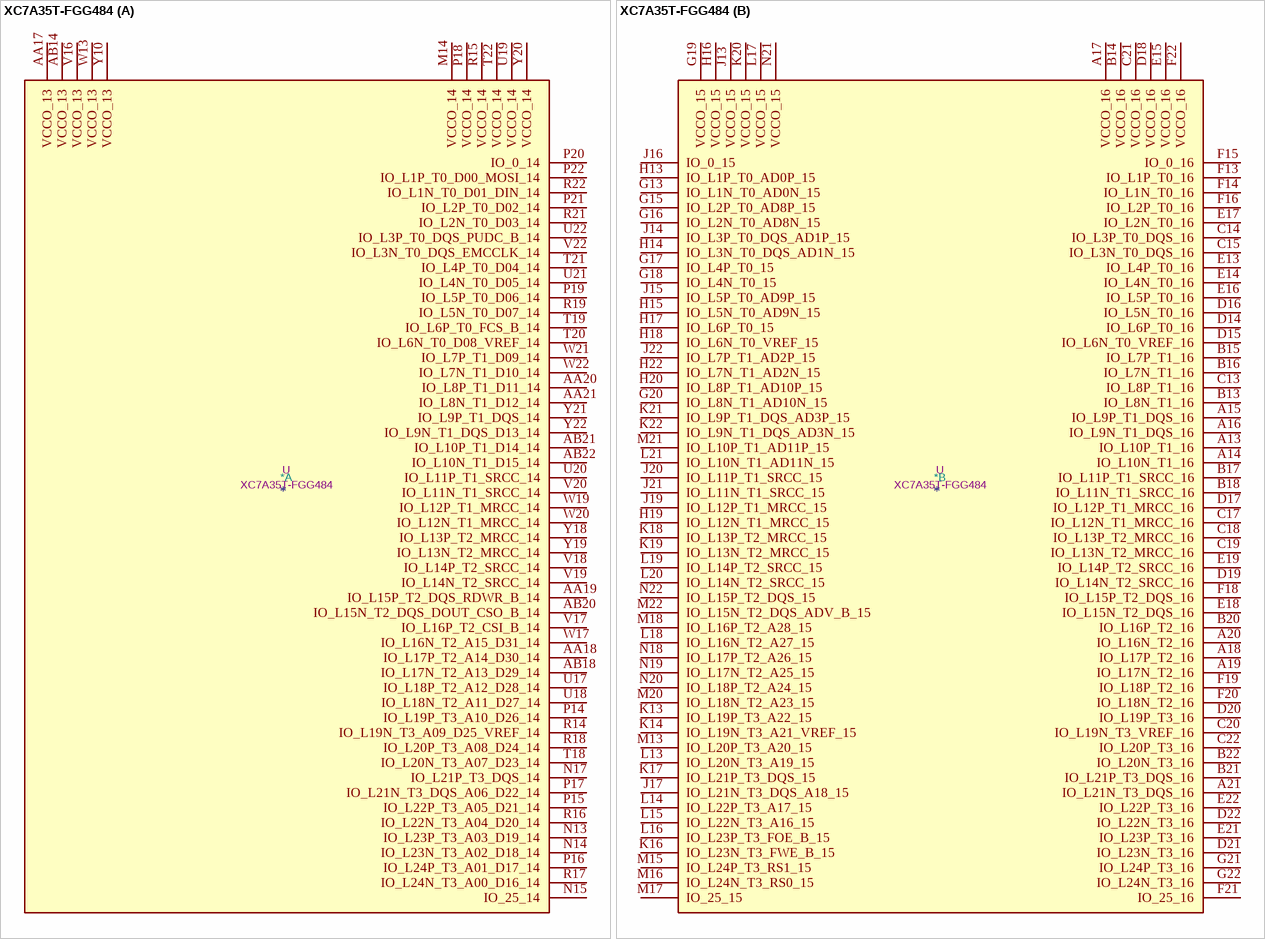
[diagram p12: symbol XC7A35T-FGG484]

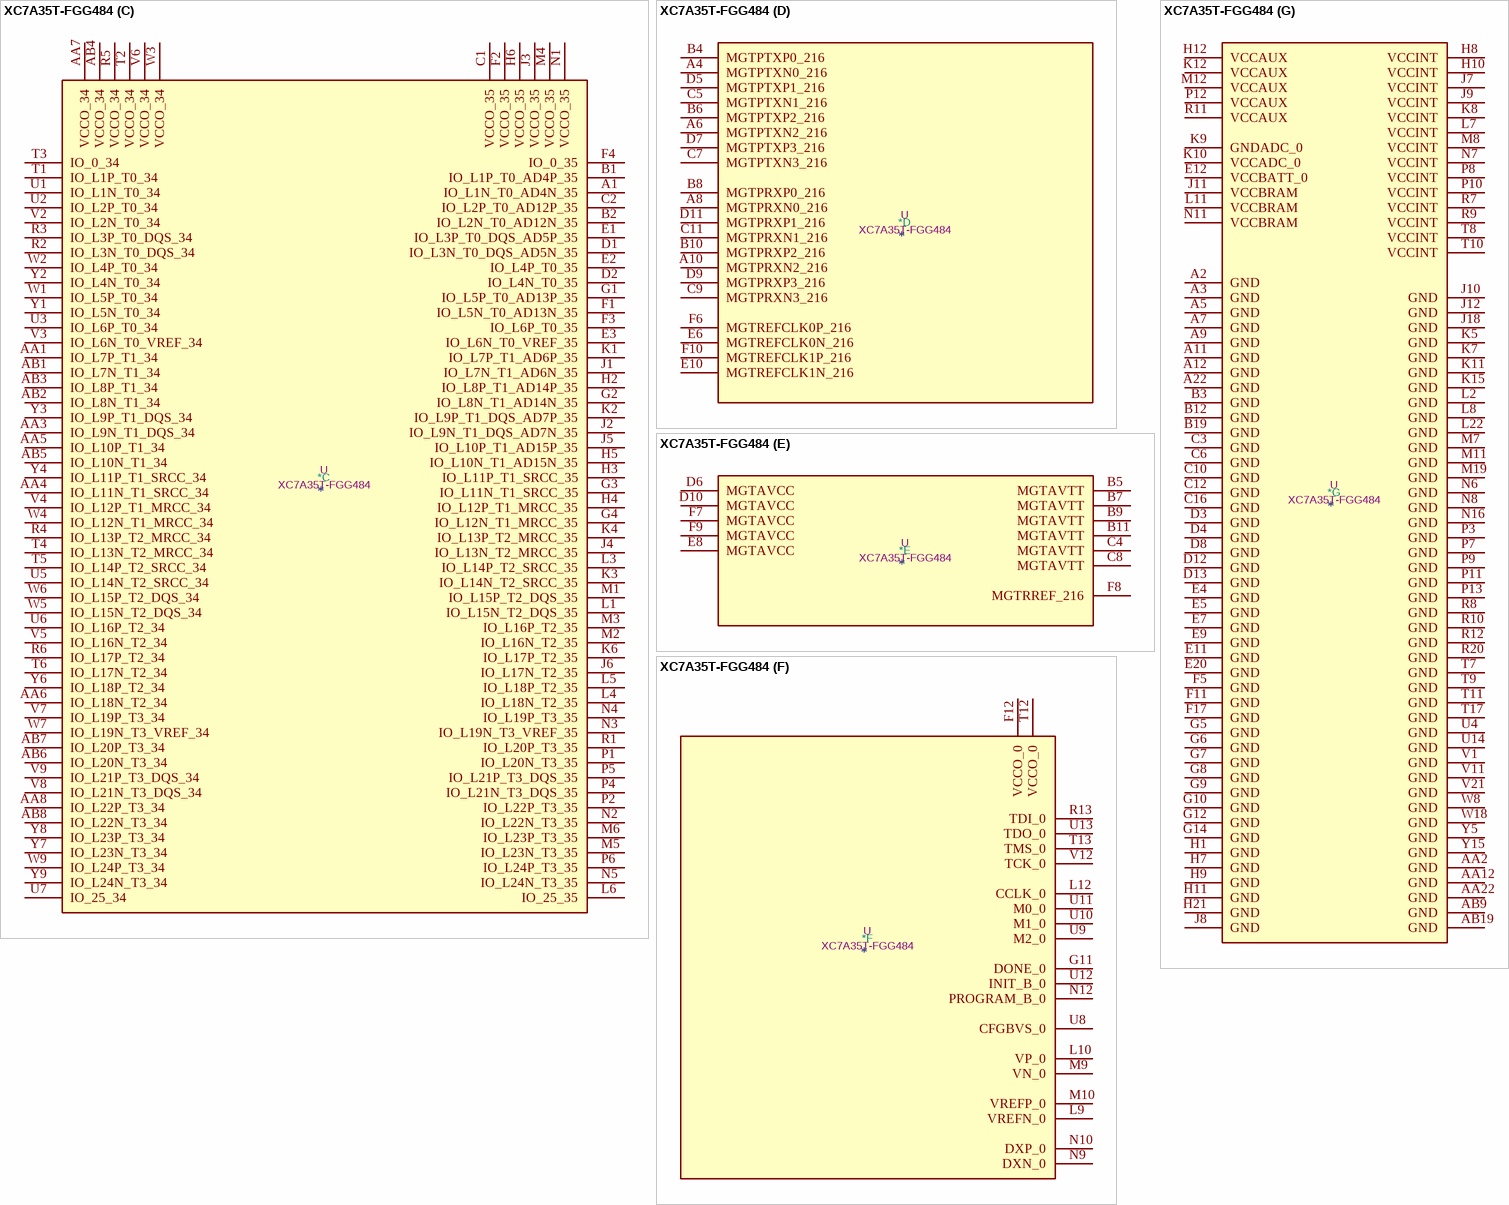
[diagram p13: symbol XC7A35T-FGG484]